# Altium schematic symbol library MCU - ARM.SchLib: 124 symbols (part 2 of 7)
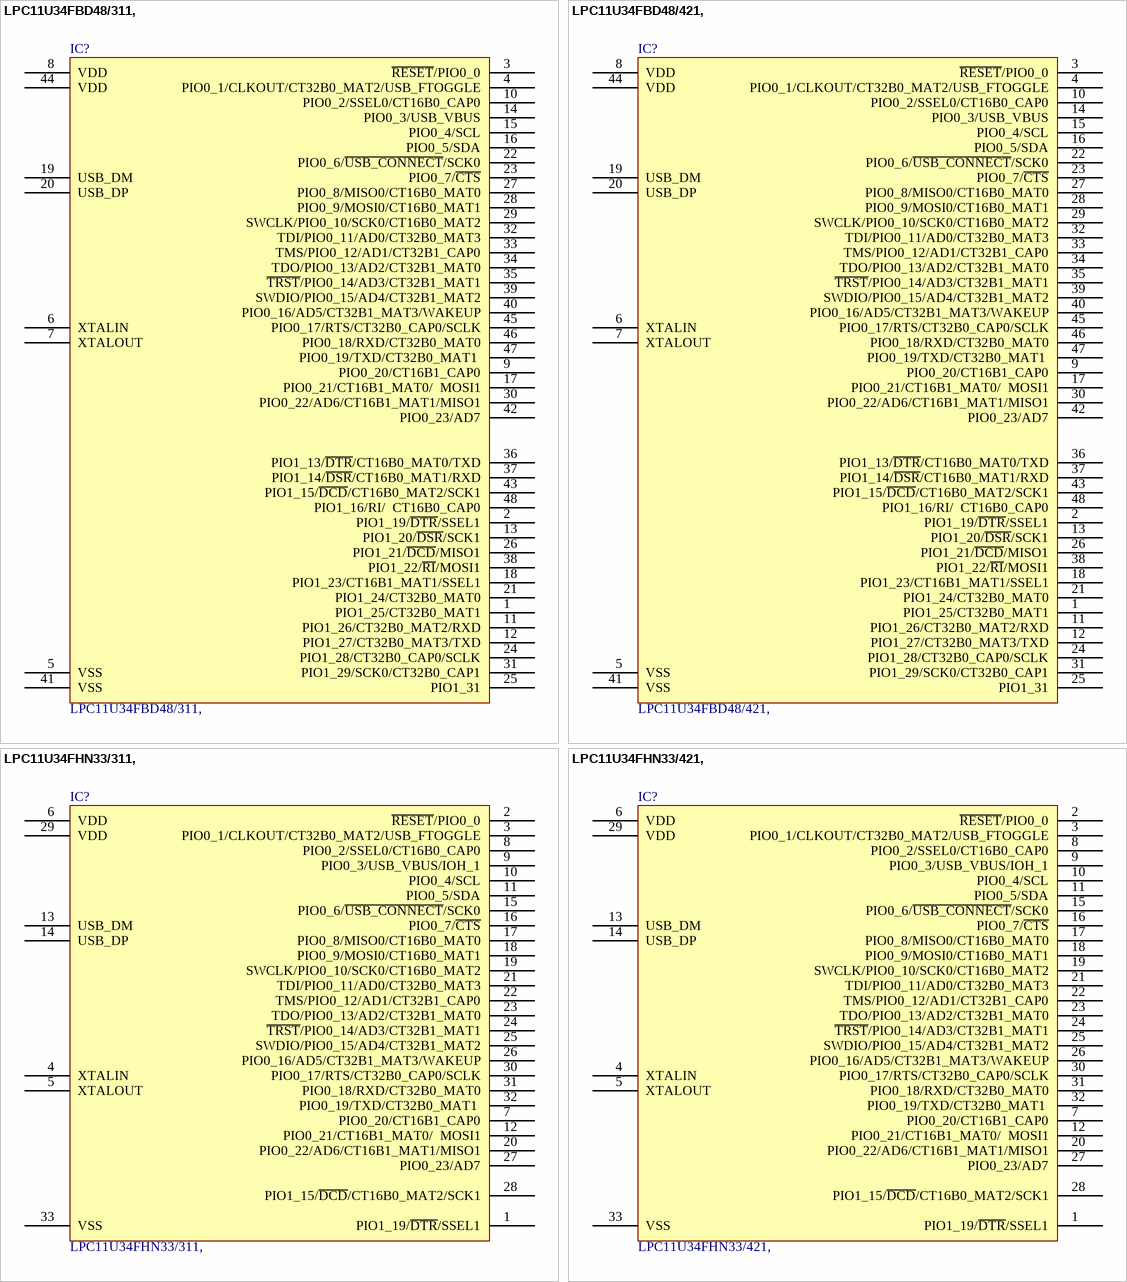
[diagram p46: symbols LPC11U34FBD48/311, to LPC11U34FHN33/421,]

## LPC11U34FHN33/421,
designator IC?
IC MCU ARM 48KB FLASH 32HVQFN; Manufacturer: NXP Semiconductors; Core Processor: ARM Cortex-M0; Core Size: 32-Bit; Speed: 50MHz; Number Of IO: 26; Program Memory Size: 48KB (48K x 8); EEPROM Size: 4K x 8; Ram Size: 10K x 8; Data Converters: A/D 8x10b; Oscillator Type: Internal; Part Number: LPC11U34FHN33/421,; PartId: 9222; Supplier 1: Digi-Key; Supplier Part Number 1: LPC11U34FHN33/421,-ND; ComponentLink1Description: Datasheet; ComponentLink1URL: http://www.nxp.com/documents/data_sheet/LPC11U3X.pdf; ComponentLink2Description: Digi-Key Listing; ComponentLink2URL: https://www.digikey.com/product-detail/en/LPC11U34FHN33%2F421,/LPC11U34FHN33%2F421,-ND/3430875; Price: 2.6455; Device Package: 32-VQFN Exposed Pad; Series: LPC11Uxx; Program Memory Type: FLASH
footprint NXP HVQFN-33 7x7mm
pins: 1 PIO1_19/~{DTR}/SSEL1, 2 ~{RESET}/PIO0_0, 3 PIO0_1/CLKOUT/CT32B0_MAT2/USB_FTOGGLE, 4 XTALIN, 5 XTALOUT, 6 VDD, 7 PIO0_20/CT16B1_CAP0, 8 PIO0_2/SSEL0/CT16B0_CAP0, 9 PIO0_3/USB_VBUS/IOH_1, 10 PIO0_4/SCL, 11 PIO0_5/SDA, 12 PIO0_21/CT16B1_MAT0/  MOSI1, 13 USB_DM, 14 USB_DP, 15 PIO0_6/~{USB_CONNECT}/SCK0, 16 PIO0_7/~{CTS}, 17 PIO0_8/MISO0/CT16B0_MAT0, 18 PIO0_9/MOSI0/CT16B0_MAT1, 19 SWCLK/PIO0_10/SCK0/CT16B0_MAT2, 20 PIO0_22/AD6/CT16B1_MAT1/MISO1, 21 TDI/PIO0_11/AD0/CT32B0_MAT3, 22 TMS/PIO0_12/AD1/CT32B1_CAP0, 23 TDO/PIO0_13/AD2/CT32B1_MAT0, 24 ~{TRST}/PIO0_14/AD3/CT32B1_MAT1, 25 SWDIO/PIO0_15/AD4/CT32B1_MAT2, 26 PIO0_16/AD5/CT32B1_MAT3/WAKEUP, 27 PIO0_23/AD7, 28 PIO1_15/~{DCD}/CT16B0_MAT2/SCK1, 29 VDD, 30 PIO0_17/RTS/CT32B0_CAP0/SCLK, 31 PIO0_18/RXD/CT32B0_MAT0, 32 PIO0_19/TXD/CT32B0_MAT1 , 33 VSS

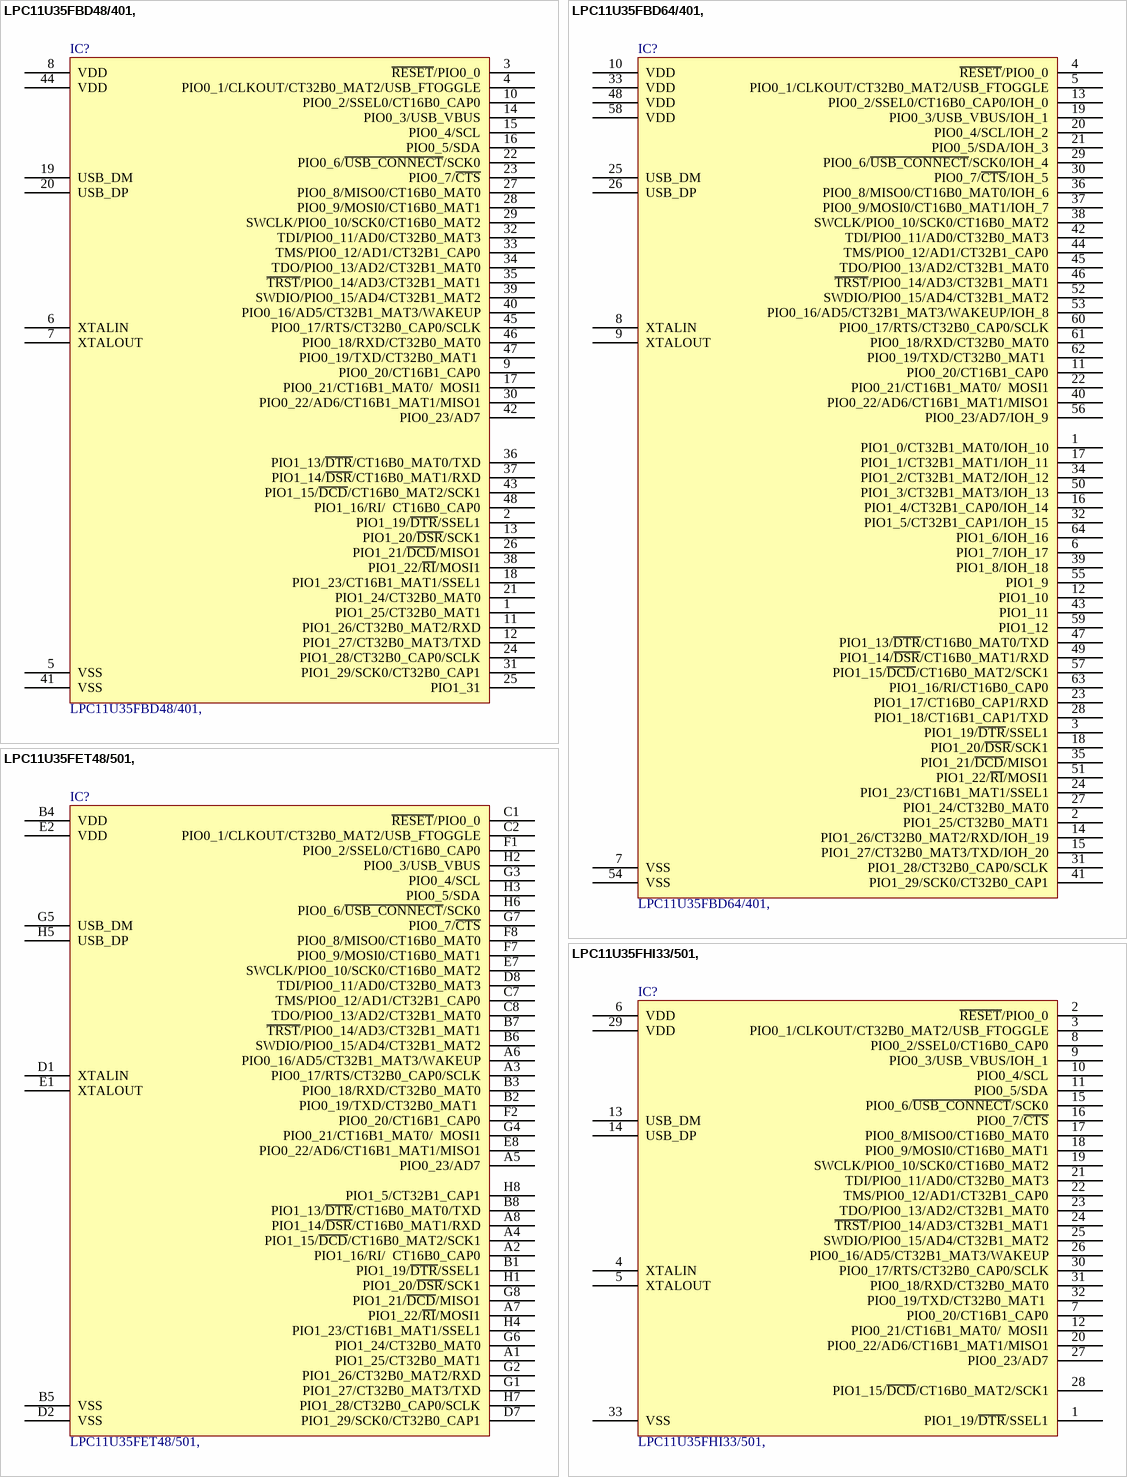
[diagram p7: symbols LPC11U35FBD48/401, to LPC11U35FHI33/501,]

## LPC11U35FBD48/401,
designator IC?
IC MCU ARM 64KB FLASH 48LQFP; Manufacturer: NXP Semiconductors; Core Processor: ARM Cortex-M0; Core Size: 32-Bit; Speed: 50MHz; Number Of IO: 40; Program Memory Size: 64KB (64K x 8); EEPROM Size: 4K x 8; Ram Size: 10K x 8; Data Converters: A/D 8x10b; Oscillator Type: Internal; Part Number: LPC11U35FBD48/401,; PartId: 9224; Supplier 1: Digi-Key; Supplier Part Number 1: 568-9584-ND; ComponentLink1Description: Datasheet; ComponentLink1URL: http://www.nxp.com/documents/data_sheet/LPC11U3X.pdf; ComponentLink2Description: Digi-Key Listing; ComponentLink2URL: https://www.digikey.com/product-detail/en/LPC11U35FBD48%2F401,/568-9584-ND/3462837; Price: 4.32; Device Package: 48-LQFP; Series: LPC11Uxx; Program Memory Type: FLASH
footprint NXP LQFP-48 7x7mm
pins: 1 PIO1_25/CT32B0_MAT1, 2 PIO1_19/~{DTR}/SSEL1, 3 ~{RESET}/PIO0_0, 4 PIO0_1/CLKOUT/CT32B0_MAT2/USB_FTOGGLE, 5 VSS, 6 XTALIN, 7 XTALOUT, 8 VDD, 9 PIO0_20/CT16B1_CAP0, 10 PIO0_2/SSEL0/CT16B0_CAP0, 11 PIO1_26/CT32B0_MAT2/RXD, 12 PIO1_27/CT32B0_MAT3/TXD, 13 PIO1_20/~{DSR}/SCK1, 14 PIO0_3/USB_VBUS, 15 PIO0_4/SCL, 16 PIO0_5/SDA, 17 PIO0_21/CT16B1_MAT0/  MOSI1, 18 PIO1_23/CT16B1_MAT1/SSEL1, 19 USB_DM, 20 USB_DP, 21 PIO1_24/CT32B0_MAT0, 22 PIO0_6/~{USB_CONNECT}/SCK0, 23 PIO0_7/~{CTS}, 24 PIO1_28/CT32B0_CAP0/SCLK, 25 PIO1_31, 26 PIO1_21/~{DCD}/MISO1, 27 PIO0_8/MISO0/CT16B0_MAT0, 28 PIO0_9/MOSI0/CT16B0_MAT1, 29 SWCLK/PIO0_10/SCK0/CT16B0_MAT2, 30 PIO0_22/AD6/CT16B1_MAT1/MISO1, 31 PIO1_29/SCK0/CT32B0_CAP1, 32 TDI/PIO0_11/AD0/CT32B0_MAT3, 33 TMS/PIO0_12/AD1/CT32B1_CAP0, 34 TDO/PIO0_13/AD2/CT32B1_MAT0, 35 ~{TRST}/PIO0_14/AD3/CT32B1_MAT1, 36 PIO1_13/~{DTR}/CT16B0_MAT0/TXD, 37 PIO1_14/~{DSR}/CT16B0_MAT1/RXD, 38 PIO1_22/~{RI}/MOSI1, 39 SWDIO/PIO0_15/AD4/CT32B1_MAT2, 40 PIO0_16/AD5/CT32B1_MAT3/WAKEUP, 41 VSS, 42 PIO0_23/AD7, 43 PIO1_15/~{DCD}/CT16B0_MAT2/SCK1, 44 VDD, 45 PIO0_17/RTS/CT32B0_CAP0/SCLK, 46 PIO0_18/RXD/CT32B0_MAT0, 47 PIO0_19/TXD/CT32B0_MAT1 , 48 PIO1_16/RI/  CT16B0_CAP0

## LPC11U35FBD64/401,
designator IC?
IC MCU ARM 64KB FLASH 64LQFP; Manufacturer: NXP Semiconductors; Core Processor: ARM Cortex-M0; Core Size: 32-Bit; Speed: 50MHz; Number Of IO: 54; Program Memory Size: 64KB (64K x 8); EEPROM Size: 4K x 8; Ram Size: 10K x 8; Data Converters: A/D 8x10b; Oscillator Type: Internal; Part Number: LPC11U35FBD64/401,; PartId: 9231; Supplier 1: Digi-Key; Supplier Part Number 1: 568-9585-ND; ComponentLink1Description: Datasheet; ComponentLink1URL: http://www.nxp.com/documents/data_sheet/LPC11U3X.pdf; ComponentLink2Description: Digi-Key Listing; ComponentLink2URL: https://www.digikey.com/product-detail/en/LPC11U35FBD64%2F401,/568-9585-ND/3462838; Price: 4.53; Device Package: 64-LQFP; Series: LPC11Uxx; Program Memory Type: FLASH
footprint NXP LQFP-64 10x10mm
pins: 1 PIO1_0/CT32B1_MAT0/IOH_10, 2 PIO1_25/CT32B0_MAT1, 3 PIO1_19/~{DTR}/SSEL1, 4 ~{RESET}/PIO0_0, 5 PIO0_1/CLKOUT/CT32B0_MAT2/USB_FTOGGLE, 6 PIO1_7/IOH_17, 7 VSS, 8 XTALIN, 9 XTALOUT, 10 VDD, 11 PIO0_20/CT16B1_CAP0, 12 PIO1_10, 13 PIO0_2/SSEL0/CT16B0_CAP0/IOH_0, 14 PIO1_26/CT32B0_MAT2/RXD/IOH_19, 15 PIO1_27/CT32B0_MAT3/TXD/IOH_20, 16 PIO1_4/CT32B1_CAP0/IOH_14, 17 PIO1_1/CT32B1_MAT1/IOH_11, 18 PIO1_20/~{DSR}/SCK1, 19 PIO0_3/USB_VBUS/IOH_1, 20 PIO0_4/SCL/IOH_2, 21 PIO0_5/SDA/IOH_3, 22 PIO0_21/CT16B1_MAT0/  MOSI1, 23 PIO1_17/CT16B0_CAP1/RXD, 24 PIO1_23/CT16B1_MAT1/SSEL1, 25 USB_DM, 26 USB_DP, 27 PIO1_24/CT32B0_MAT0, 28 PIO1_18/CT16B1_CAP1/TXD, 29 PIO0_6/~{USB_CONNECT}/SCK0/IOH_4, 30 PIO0_7/~{CTS}/IOH_5, 31 PIO1_28/CT32B0_CAP0/SCLK, 32 PIO1_5/CT32B1_CAP1/IOH_15, 33 VDD, 34 PIO1_2/CT32B1_MAT2/IOH_12, 35 PIO1_21/~{DCD}/MISO1, 36 PIO0_8/MISO0/CT16B0_MAT0/IOH_6, 37 PIO0_9/MOSI0/CT16B0_MAT1/IOH_7, 38 SWCLK/PIO0_10/SCK0/CT16B0_MAT2, 39 PIO1_8/IOH_18, 40 PIO0_22/AD6/CT16B1_MAT1/MISO1, 41 PIO1_29/SCK0/CT32B0_CAP1, 42 TDI/PIO0_11/AD0/CT32B0_MAT3, 43 PIO1_11, 44 TMS/PIO0_12/AD1/CT32B1_CAP0, 45 TDO/PIO0_13/AD2/CT32B1_MAT0, 46 ~{TRST}/PIO0_14/AD3/CT32B1_MAT1, 47 PIO1_13/~{DTR}/CT16B0_MAT0/TXD, 48 VDD, 49 PIO1_14/~{DSR}/CT16B0_MAT1/RXD, 50 PIO1_3/CT32B1_MAT3/IOH_13, 51 PIO1_22/~{RI}/MOSI1, 52 SWDIO/PIO0_15/AD4/CT32B1_MAT2, 53 PIO0_16/AD5/CT32B1_MAT3/WAKEUP/IOH_8, 54 VSS, 55 PIO1_9, 56 PIO0_23/AD7/IOH_9, 57 PIO1_15/~{DCD}/CT16B0_MAT2/SCK1, 58 VDD, 59 PIO1_12, 60 PIO0_17/RTS/CT32B0_CAP0/SCLK, 61 PIO0_18/RXD/CT32B0_MAT0, 62 PIO0_19/TXD/CT32B0_MAT1 , 63 PIO1_16/RI/CT16B0_CAP0, 64 PIO1_6/IOH_16

## LPC11U35FET48/501,
designator IC?
IC MCU ARM 64KB FLASH 48TFBGA; Manufacturer: NXP Semiconductors; Core Processor: ARM Cortex-M0; Core Size: 32-Bit; Speed: 50MHz; Connectivity: IC, Microwire, SmartCard, SPI, SSP, UART/USART, USB; Peripherals: Brown-out Detect/Reset, POR, WDT; Number Of IO: 40; Program Memory Size: 64KB (64K x 8); EEPROM Size: 4K x 8; Ram Size: 12K x 8; Voltage: 1.8 V ~ 3.6 V; Data Converters: A/D 8x10b; Oscillator Type: Internal; Part Number: LPC11U35FET48/501,; PartId: 9219; Supplier 1: Digi-Key; Supplier Part Number 1: LPC11U35FET48/501,-ND; ComponentLink1Description: Datasheet; ComponentLink1URL: http://www.nxp.com/documents/data_sheet/LPC11U3X.pdf; ComponentLink2Description: Digi-Key Listing; ComponentLink2URL: http://www.digikey.com/product-search/en?pv1291=6337&FV=fff40027%2Cfff800cd&k=LPC11U3&mnonly=0&newproducts=0&ColumnSort=0&page=1&quantity=0&ptm=0&fid=0&pageSize=500; Price: 3.1635; Device Package: 48-TFBGA; Program Memory Type: FLASH
footprint NXP TFBGA-48 4.5x4.5mm
pins: A1 PIO1_25/CT32B0_MAT1, A2 PIO1_16/RI/  CT16B0_CAP0, A3 PIO0_17/RTS/CT32B0_CAP0/SCLK, A4 PIO1_15/~{DCD}/CT16B0_MAT2/SCK1, A5 PIO0_23/AD7, A6 PIO0_16/AD5/CT32B1_MAT3/WAKEUP, A7 PIO1_22/~{RI}/MOSI1, A8 PIO1_14/~{DSR}/CT16B0_MAT1/RXD, B1 PIO1_19/~{DTR}/SSEL1, B2 PIO0_19/TXD/CT32B0_MAT1 , B3 PIO0_18/RXD/CT32B0_MAT0, B4 VDD, B5 VSS, B6 SWDIO/PIO0_15/AD4/CT32B1_MAT2, B7 ~{TRST}/PIO0_14/AD3/CT32B1_MAT1, B8 PIO1_13/~{DTR}/CT16B0_MAT0/TXD, C1 ~{RESET}/PIO0_0, C2 PIO0_1/CLKOUT/CT32B0_MAT2/USB_FTOGGLE, C7 TMS/PIO0_12/AD1/CT32B1_CAP0, C8 TDO/PIO0_13/AD2/CT32B1_MAT0, D1 XTALIN, D2 VSS, D7 PIO1_29/SCK0/CT32B0_CAP1, D8 TDI/PIO0_11/AD0/CT32B0_MAT3, E1 XTALOUT, E2 VDD, E7 SWCLK/PIO0_10/SCK0/CT16B0_MAT2, E8 PIO0_22/AD6/CT16B1_MAT1/MISO1, F1 PIO0_2/SSEL0/CT16B0_CAP0, F2 PIO0_20/CT16B1_CAP0, F7 PIO0_9/MOSI0/CT16B0_MAT1, F8 PIO0_8/MISO0/CT16B0_MAT0, G1 PIO1_27/CT32B0_MAT3/TXD, G2 PIO1_26/CT32B0_MAT2/RXD, G3 PIO0_4/SCL, G4 PIO0_21/CT16B1_MAT0/  MOSI1, G5 USB_DM, G6 PIO1_24/CT32B0_MAT0, G7 PIO0_7/~{CTS}, G8 PIO1_21/~{DCD}/MISO1, H1 PIO1_20/~{DSR}/SCK1, H2 PIO0_3/USB_VBUS, H3 PIO0_5/SDA, H4 PIO1_23/CT16B1_MAT1/SSEL1, H5 USB_DP, H6 PIO0_6/~{USB_CONNECT}/SCK0, H7 PIO1_28/CT32B0_CAP0/SCLK, H8 PIO1_5/CT32B1_CAP1

## LPC11U35FHI33/501,
designator IC?
IC MCU ARM 64KB FLASH 33HVQFN; Manufacturer: NXP Semiconductors; Core Processor: ARM Cortex-M0; Core Size: 32-Bit; Speed: 50MHz; Connectivity: IC, Microwire, SmartCard, SPI, SSP, UART/USART, USB; Peripherals: Brown-out Detect/Reset, POR, WDT; Number Of IO: 26; Program Memory Size: 64KB (64K x 8); EEPROM Size: 4K x 8; Ram Size: 12K x 8; Voltage: 1.8 V ~ 3.6 V; Data Converters: A/D 8x10b; Oscillator Type: Internal; Part Number: LPC11U35FHI33/501,; PartId: 9220; Supplier 1: Digi-Key; Supplier Part Number 1: 568-9586-ND; ComponentLink1Description: Datasheet; ComponentLink1URL: http://www.nxp.com/documents/data_sheet/LPC11U3X.pdf; ComponentLink2Description: Digi-Key Listing; ComponentLink2URL: http://www.digikey.com/product-search/en?pv1291=3750&FV=fff40027%2Cfff800cd&k=LPC11U3&mnonly=0&newproducts=0&ColumnSort=0&page=1&quantity=0&ptm=0&fid=0&pageSize=500; Price: 4.29; Device Package: 32-VFQFN Exposed Pad; Program Memory Type: FLASH
footprint NXP HVQFN-33 5x5mm
pins: 1 PIO1_19/~{DTR}/SSEL1, 2 ~{RESET}/PIO0_0, 3 PIO0_1/CLKOUT/CT32B0_MAT2/USB_FTOGGLE, 4 XTALIN, 5 XTALOUT, 6 VDD, 7 PIO0_20/CT16B1_CAP0, 8 PIO0_2/SSEL0/CT16B0_CAP0, 9 PIO0_3/USB_VBUS/IOH_1, 10 PIO0_4/SCL, 11 PIO0_5/SDA, 12 PIO0_21/CT16B1_MAT0/  MOSI1, 13 USB_DM, 14 USB_DP, 15 PIO0_6/~{USB_CONNECT}/SCK0, 16 PIO0_7/~{CTS}, 17 PIO0_8/MISO0/CT16B0_MAT0, 18 PIO0_9/MOSI0/CT16B0_MAT1, 19 SWCLK/PIO0_10/SCK0/CT16B0_MAT2, 20 PIO0_22/AD6/CT16B1_MAT1/MISO1, 21 TDI/PIO0_11/AD0/CT32B0_MAT3, 22 TMS/PIO0_12/AD1/CT32B1_CAP0, 23 TDO/PIO0_13/AD2/CT32B1_MAT0, 24 ~{TRST}/PIO0_14/AD3/CT32B1_MAT1, 25 SWDIO/PIO0_15/AD4/CT32B1_MAT2, 26 PIO0_16/AD5/CT32B1_MAT3/WAKEUP, 27 PIO0_23/AD7, 28 PIO1_15/~{DCD}/CT16B0_MAT2/SCK1, 29 VDD, 30 PIO0_17/RTS/CT32B0_CAP0/SCLK, 31 PIO0_18/RXD/CT32B0_MAT0, 32 PIO0_19/TXD/CT32B0_MAT1 , 33 VSS

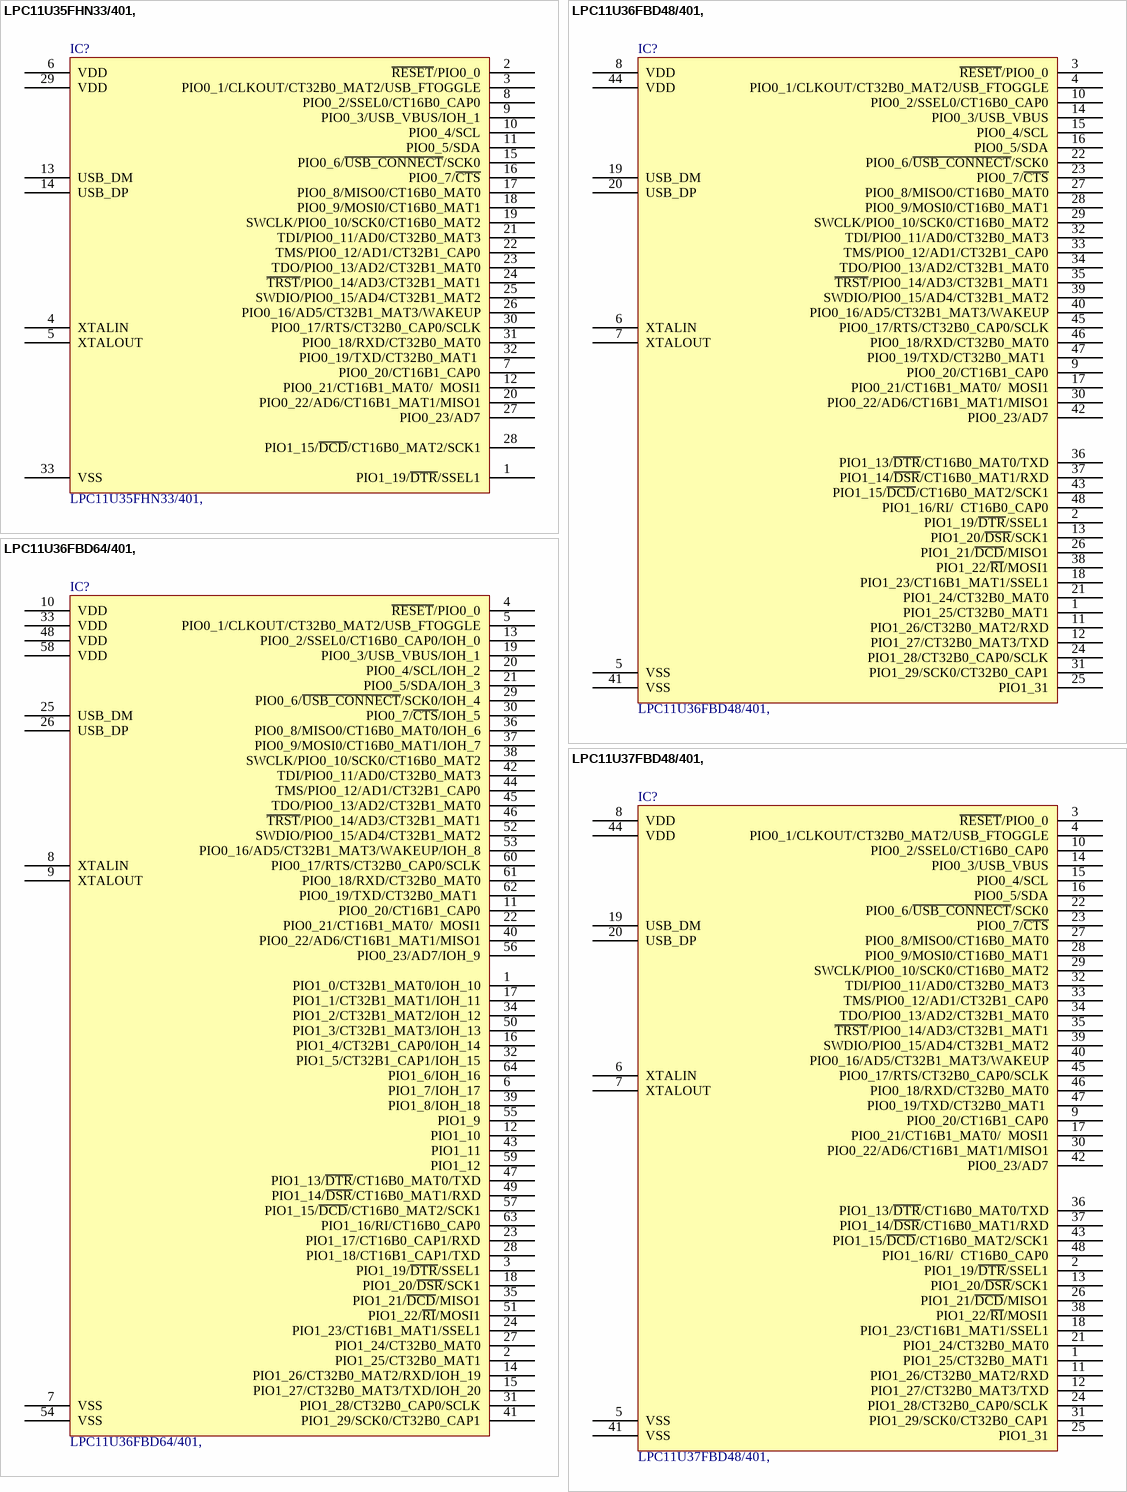
[diagram p8: symbols LPC11U35FHN33/401, to LPC11U37FBD48/401,]

## LPC11U35FHN33/401,
designator IC?
IC MCU ARM 64KB FLASH 32HVQFN; Manufacturer: NXP Semiconductors; Core Processor: ARM Cortex-M0; Core Size: 32-Bit; Speed: 50MHz; Number Of IO: 26; Program Memory Size: 64KB (64K x 8); EEPROM Size: 4K x 8; Ram Size: 10K x 8; Data Converters: A/D 8x10b; Oscillator Type: Internal; Part Number: LPC11U35FHN33/401,; PartId: 9223; Supplier 1: Digi-Key; Supplier Part Number 1: LPC11U35FHN33/401,-ND; ComponentLink1Description: Datasheet; ComponentLink1URL: http://www.nxp.com/documents/data_sheet/LPC11U3X.pdf; ComponentLink2Description: Digi-Key Listing; ComponentLink2URL: https://www.digikey.com/product-detail/en/LPC11U35FHN33%2F401,/LPC11U35FHN33%2F401,-ND/3430880; Price: 2.886; Device Package: 32-VQFN Exposed Pad; Series: LPC11Uxx; Program Memory Type: FLASH
footprint NXP HVQFN-33 7x7mm
pins: 1 PIO1_19/~{DTR}/SSEL1, 2 ~{RESET}/PIO0_0, 3 PIO0_1/CLKOUT/CT32B0_MAT2/USB_FTOGGLE, 4 XTALIN, 5 XTALOUT, 6 VDD, 7 PIO0_20/CT16B1_CAP0, 8 PIO0_2/SSEL0/CT16B0_CAP0, 9 PIO0_3/USB_VBUS/IOH_1, 10 PIO0_4/SCL, 11 PIO0_5/SDA, 12 PIO0_21/CT16B1_MAT0/  MOSI1, 13 USB_DM, 14 USB_DP, 15 PIO0_6/~{USB_CONNECT}/SCK0, 16 PIO0_7/~{CTS}, 17 PIO0_8/MISO0/CT16B0_MAT0, 18 PIO0_9/MOSI0/CT16B0_MAT1, 19 SWCLK/PIO0_10/SCK0/CT16B0_MAT2, 20 PIO0_22/AD6/CT16B1_MAT1/MISO1, 21 TDI/PIO0_11/AD0/CT32B0_MAT3, 22 TMS/PIO0_12/AD1/CT32B1_CAP0, 23 TDO/PIO0_13/AD2/CT32B1_MAT0, 24 ~{TRST}/PIO0_14/AD3/CT32B1_MAT1, 25 SWDIO/PIO0_15/AD4/CT32B1_MAT2, 26 PIO0_16/AD5/CT32B1_MAT3/WAKEUP, 27 PIO0_23/AD7, 28 PIO1_15/~{DCD}/CT16B0_MAT2/SCK1, 29 VDD, 30 PIO0_17/RTS/CT32B0_CAP0/SCLK, 31 PIO0_18/RXD/CT32B0_MAT0, 32 PIO0_19/TXD/CT32B0_MAT1 , 33 VSS

## LPC11U36FBD48/401,
designator IC?
IC MCU ARM 96KB FLASH 48LQFP; Manufacturer: NXP Semiconductors; Core Processor: ARM Cortex-M0; Core Size: 32-Bit; Speed: 50MHz; Number Of IO: 40; Program Memory Size: 96KB (96K x 8); EEPROM Size: 4K x 8; Ram Size: 10K x 8; Data Converters: A/D 8x10b; Oscillator Type: Internal; Part Number: LPC11U36FBD48/401,; PartId: 9226; Supplier 1: Digi-Key; Supplier Part Number 1: 568-9587-ND; ComponentLink1Description: Datasheet; ComponentLink1URL: http://www.nxp.com/documents/data_sheet/LPC11U3X.pdf; ComponentLink2Description: Digi-Key Listing; ComponentLink2URL: https://www.digikey.com/product-detail/en/LPC11U36FBD48%2F401,/568-9587-ND/3462840; Price: 4.8; Device Package: 48-LQFP; Series: LPC11Uxx; Program Memory Type: FLASH
footprint NXP LQFP-48 7x7mm
pins: 1 PIO1_25/CT32B0_MAT1, 2 PIO1_19/~{DTR}/SSEL1, 3 ~{RESET}/PIO0_0, 4 PIO0_1/CLKOUT/CT32B0_MAT2/USB_FTOGGLE, 5 VSS, 6 XTALIN, 7 XTALOUT, 8 VDD, 9 PIO0_20/CT16B1_CAP0, 10 PIO0_2/SSEL0/CT16B0_CAP0, 11 PIO1_26/CT32B0_MAT2/RXD, 12 PIO1_27/CT32B0_MAT3/TXD, 13 PIO1_20/~{DSR}/SCK1, 14 PIO0_3/USB_VBUS, 15 PIO0_4/SCL, 16 PIO0_5/SDA, 17 PIO0_21/CT16B1_MAT0/  MOSI1, 18 PIO1_23/CT16B1_MAT1/SSEL1, 19 USB_DM, 20 USB_DP, 21 PIO1_24/CT32B0_MAT0, 22 PIO0_6/~{USB_CONNECT}/SCK0, 23 PIO0_7/~{CTS}, 24 PIO1_28/CT32B0_CAP0/SCLK, 25 PIO1_31, 26 PIO1_21/~{DCD}/MISO1, 27 PIO0_8/MISO0/CT16B0_MAT0, 28 PIO0_9/MOSI0/CT16B0_MAT1, 29 SWCLK/PIO0_10/SCK0/CT16B0_MAT2, 30 PIO0_22/AD6/CT16B1_MAT1/MISO1, 31 PIO1_29/SCK0/CT32B0_CAP1, 32 TDI/PIO0_11/AD0/CT32B0_MAT3, 33 TMS/PIO0_12/AD1/CT32B1_CAP0, 34 TDO/PIO0_13/AD2/CT32B1_MAT0, 35 ~{TRST}/PIO0_14/AD3/CT32B1_MAT1, 36 PIO1_13/~{DTR}/CT16B0_MAT0/TXD, 37 PIO1_14/~{DSR}/CT16B0_MAT1/RXD, 38 PIO1_22/~{RI}/MOSI1, 39 SWDIO/PIO0_15/AD4/CT32B1_MAT2, 40 PIO0_16/AD5/CT32B1_MAT3/WAKEUP, 41 VSS, 42 PIO0_23/AD7, 43 PIO1_15/~{DCD}/CT16B0_MAT2/SCK1, 44 VDD, 45 PIO0_17/RTS/CT32B0_CAP0/SCLK, 46 PIO0_18/RXD/CT32B0_MAT0, 47 PIO0_19/TXD/CT32B0_MAT1 , 48 PIO1_16/RI/  CT16B0_CAP0

## LPC11U36FBD64/401,
designator IC?
IC MCU ARM 96KB FLASH 64LQFP; Manufacturer: NXP Semiconductors; Core Processor: ARM Cortex-M0; Core Size: 32-Bit; Speed: 50MHz; Number Of IO: 54; Program Memory Size: 96KB (96K x 8); EEPROM Size: 4K x 8; Ram Size: 10K x 8; Data Converters: A/D 8x10b; Oscillator Type: Internal; Part Number: LPC11U36FBD64/401,; PartId: 9233; Supplier 1: Digi-Key; Supplier Part Number 1: 568-9588-ND; ComponentLink1Description: Datasheet; ComponentLink1URL: http://www.nxp.com/documents/data_sheet/LPC11U3X.pdf; ComponentLink2Description: Digi-Key Listing; ComponentLink2URL: https://www.digikey.com/product-detail/en/LPC11U36FBD64%2F401,/568-9588-ND/3462841; Price: 5.01; Device Package: 64-LQFP; Series: LPC11Uxx; Program Memory Type: FLASH
footprint NXP LQFP-64 10x10mm
pins: 1 PIO1_0/CT32B1_MAT0/IOH_10, 2 PIO1_25/CT32B0_MAT1, 3 PIO1_19/~{DTR}/SSEL1, 4 ~{RESET}/PIO0_0, 5 PIO0_1/CLKOUT/CT32B0_MAT2/USB_FTOGGLE, 6 PIO1_7/IOH_17, 7 VSS, 8 XTALIN, 9 XTALOUT, 10 VDD, 11 PIO0_20/CT16B1_CAP0, 12 PIO1_10, 13 PIO0_2/SSEL0/CT16B0_CAP0/IOH_0, 14 PIO1_26/CT32B0_MAT2/RXD/IOH_19, 15 PIO1_27/CT32B0_MAT3/TXD/IOH_20, 16 PIO1_4/CT32B1_CAP0/IOH_14, 17 PIO1_1/CT32B1_MAT1/IOH_11, 18 PIO1_20/~{DSR}/SCK1, 19 PIO0_3/USB_VBUS/IOH_1, 20 PIO0_4/SCL/IOH_2, 21 PIO0_5/SDA/IOH_3, 22 PIO0_21/CT16B1_MAT0/  MOSI1, 23 PIO1_17/CT16B0_CAP1/RXD, 24 PIO1_23/CT16B1_MAT1/SSEL1, 25 USB_DM, 26 USB_DP, 27 PIO1_24/CT32B0_MAT0, 28 PIO1_18/CT16B1_CAP1/TXD, 29 PIO0_6/~{USB_CONNECT}/SCK0/IOH_4, 30 PIO0_7/~{CTS}/IOH_5, 31 PIO1_28/CT32B0_CAP0/SCLK, 32 PIO1_5/CT32B1_CAP1/IOH_15, 33 VDD, 34 PIO1_2/CT32B1_MAT2/IOH_12, 35 PIO1_21/~{DCD}/MISO1, 36 PIO0_8/MISO0/CT16B0_MAT0/IOH_6, 37 PIO0_9/MOSI0/CT16B0_MAT1/IOH_7, 38 SWCLK/PIO0_10/SCK0/CT16B0_MAT2, 39 PIO1_8/IOH_18, 40 PIO0_22/AD6/CT16B1_MAT1/MISO1, 41 PIO1_29/SCK0/CT32B0_CAP1, 42 TDI/PIO0_11/AD0/CT32B0_MAT3, 43 PIO1_11, 44 TMS/PIO0_12/AD1/CT32B1_CAP0, 45 TDO/PIO0_13/AD2/CT32B1_MAT0, 46 ~{TRST}/PIO0_14/AD3/CT32B1_MAT1, 47 PIO1_13/~{DTR}/CT16B0_MAT0/TXD, 48 VDD, 49 PIO1_14/~{DSR}/CT16B0_MAT1/RXD, 50 PIO1_3/CT32B1_MAT3/IOH_13, 51 PIO1_22/~{RI}/MOSI1, 52 SWDIO/PIO0_15/AD4/CT32B1_MAT2, 53 PIO0_16/AD5/CT32B1_MAT3/WAKEUP/IOH_8, 54 VSS, 55 PIO1_9, 56 PIO0_23/AD7/IOH_9, 57 PIO1_15/~{DCD}/CT16B0_MAT2/SCK1, 58 VDD, 59 PIO1_12, 60 PIO0_17/RTS/CT32B0_CAP0/SCLK, 61 PIO0_18/RXD/CT32B0_MAT0, 62 PIO0_19/TXD/CT32B0_MAT1 , 63 PIO1_16/RI/CT16B0_CAP0, 64 PIO1_6/IOH_16

## LPC11U37FBD48/401,
designator IC?
IC MCU ARM 128KB FLASH 48LQFP; Manufacturer: NXP Semiconductors; Core Processor: ARM Cortex-M0; Core Size: 32-Bit; Speed: 50MHz; Number Of IO: 40; Program Memory Size: 128KB (128K x 8); EEPROM Size: 4K x 8; Ram Size: 10K x 8; Data Converters: A/D 8x10b; Oscillator Type: Internal; Part Number: LPC11U37FBD48/401,; PartId: 9225; Supplier 1: Digi-Key; Supplier Part Number 1: 568-9590-ND; ComponentLink1Description: Datasheet; ComponentLink1URL: http://www.nxp.com/documents/data_sheet/LPC11U3X.pdf; ComponentLink2Description: Digi-Key Listing; ComponentLink2URL: https://www.digikey.com/product-detail/en/LPC11U37FBD48%2F401,/568-9590-ND/3462843; Price: 4.9; Device Package: 48-LQFP; Series: LPC11Uxx; Program Memory Type: FLASH
footprint NXP LQFP-48 7x7mm
pins: 1 PIO1_25/CT32B0_MAT1, 2 PIO1_19/~{DTR}/SSEL1, 3 ~{RESET}/PIO0_0, 4 PIO0_1/CLKOUT/CT32B0_MAT2/USB_FTOGGLE, 5 VSS, 6 XTALIN, 7 XTALOUT, 8 VDD, 9 PIO0_20/CT16B1_CAP0, 10 PIO0_2/SSEL0/CT16B0_CAP0, 11 PIO1_26/CT32B0_MAT2/RXD, 12 PIO1_27/CT32B0_MAT3/TXD, 13 PIO1_20/~{DSR}/SCK1, 14 PIO0_3/USB_VBUS, 15 PIO0_4/SCL, 16 PIO0_5/SDA, 17 PIO0_21/CT16B1_MAT0/  MOSI1, 18 PIO1_23/CT16B1_MAT1/SSEL1, 19 USB_DM, 20 USB_DP, 21 PIO1_24/CT32B0_MAT0, 22 PIO0_6/~{USB_CONNECT}/SCK0, 23 PIO0_7/~{CTS}, 24 PIO1_28/CT32B0_CAP0/SCLK, 25 PIO1_31, 26 PIO1_21/~{DCD}/MISO1, 27 PIO0_8/MISO0/CT16B0_MAT0, 28 PIO0_9/MOSI0/CT16B0_MAT1, 29 SWCLK/PIO0_10/SCK0/CT16B0_MAT2, 30 PIO0_22/AD6/CT16B1_MAT1/MISO1, 31 PIO1_29/SCK0/CT32B0_CAP1, 32 TDI/PIO0_11/AD0/CT32B0_MAT3, 33 TMS/PIO0_12/AD1/CT32B1_CAP0, 34 TDO/PIO0_13/AD2/CT32B1_MAT0, 35 ~{TRST}/PIO0_14/AD3/CT32B1_MAT1, 36 PIO1_13/~{DTR}/CT16B0_MAT0/TXD, 37 PIO1_14/~{DSR}/CT16B0_MAT1/RXD, 38 PIO1_22/~{RI}/MOSI1, 39 SWDIO/PIO0_15/AD4/CT32B1_MAT2, 40 PIO0_16/AD5/CT32B1_MAT3/WAKEUP, 41 VSS, 42 PIO0_23/AD7, 43 PIO1_15/~{DCD}/CT16B0_MAT2/SCK1, 44 VDD, 45 PIO0_17/RTS/CT32B0_CAP0/SCLK, 46 PIO0_18/RXD/CT32B0_MAT0, 47 PIO0_19/TXD/CT32B0_MAT1 , 48 PIO1_16/RI/  CT16B0_CAP0

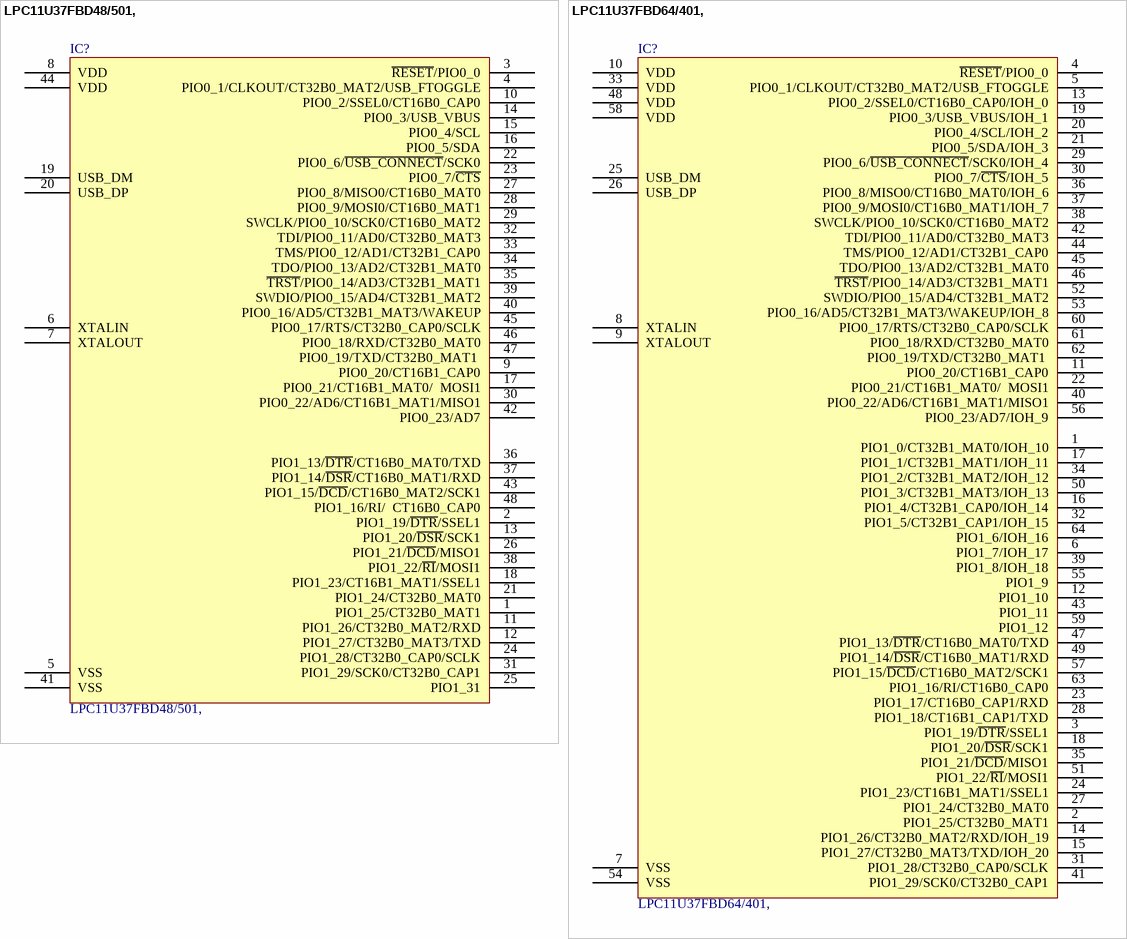
[diagram p9: symbols LPC11U37FBD48/501, to LPC11U37FBD64/401,]

## LPC11U37FBD48/501,
designator IC?
IC MCU ARM 128KB FLASH 48LQFP; Manufacturer: NXP Semiconductors; Core Processor: ARM Cortex-M0; Core Size: 32-Bit; Speed: 50MHz; Number Of IO: 40; Program Memory Size: 128KB (128K x 8); EEPROM Size: 4K x 8; Ram Size: 12K x 8; Data Converters: A/D 8x10b; Oscillator Type: Internal; Part Number: LPC11U37FBD48/501,; PartId: 9229; Supplier 1: Digi-Key; Supplier Part Number 1: LPC11U37FBD48/501,-ND; ComponentLink1Description: Datasheet; ComponentLink1URL: http://www.nxp.com/documents/data_sheet/LPC11U3X.pdf; ComponentLink2Description: Digi-Key Listing; ComponentLink2URL: https://www.digikey.com/product-detail/en/LPC11U37FBD48%2F501,/LPC11U37FBD48%2F501,-ND/3430884; Price: 0; Device Package: 48-LQFP; Series: LPC11Uxx; Program Memory Type: FLASH
footprint NXP LQFP-48 7x7mm
pins: 1 PIO1_25/CT32B0_MAT1, 2 PIO1_19/~{DTR}/SSEL1, 3 ~{RESET}/PIO0_0, 4 PIO0_1/CLKOUT/CT32B0_MAT2/USB_FTOGGLE, 5 VSS, 6 XTALIN, 7 XTALOUT, 8 VDD, 9 PIO0_20/CT16B1_CAP0, 10 PIO0_2/SSEL0/CT16B0_CAP0, 11 PIO1_26/CT32B0_MAT2/RXD, 12 PIO1_27/CT32B0_MAT3/TXD, 13 PIO1_20/~{DSR}/SCK1, 14 PIO0_3/USB_VBUS, 15 PIO0_4/SCL, 16 PIO0_5/SDA, 17 PIO0_21/CT16B1_MAT0/  MOSI1, 18 PIO1_23/CT16B1_MAT1/SSEL1, 19 USB_DM, 20 USB_DP, 21 PIO1_24/CT32B0_MAT0, 22 PIO0_6/~{USB_CONNECT}/SCK0, 23 PIO0_7/~{CTS}, 24 PIO1_28/CT32B0_CAP0/SCLK, 25 PIO1_31, 26 PIO1_21/~{DCD}/MISO1, 27 PIO0_8/MISO0/CT16B0_MAT0, 28 PIO0_9/MOSI0/CT16B0_MAT1, 29 SWCLK/PIO0_10/SCK0/CT16B0_MAT2, 30 PIO0_22/AD6/CT16B1_MAT1/MISO1, 31 PIO1_29/SCK0/CT32B0_CAP1, 32 TDI/PIO0_11/AD0/CT32B0_MAT3, 33 TMS/PIO0_12/AD1/CT32B1_CAP0, 34 TDO/PIO0_13/AD2/CT32B1_MAT0, 35 ~{TRST}/PIO0_14/AD3/CT32B1_MAT1, 36 PIO1_13/~{DTR}/CT16B0_MAT0/TXD, 37 PIO1_14/~{DSR}/CT16B0_MAT1/RXD, 38 PIO1_22/~{RI}/MOSI1, 39 SWDIO/PIO0_15/AD4/CT32B1_MAT2, 40 PIO0_16/AD5/CT32B1_MAT3/WAKEUP, 41 VSS, 42 PIO0_23/AD7, 43 PIO1_15/~{DCD}/CT16B0_MAT2/SCK1, 44 VDD, 45 PIO0_17/RTS/CT32B0_CAP0/SCLK, 46 PIO0_18/RXD/CT32B0_MAT0, 47 PIO0_19/TXD/CT32B0_MAT1 , 48 PIO1_16/RI/  CT16B0_CAP0

## LPC11U37FBD64/401,
designator IC?
IC MCU ARM 128KB FLASH 64LQFP; Manufacturer: NXP Semiconductors; Core Processor: ARM Cortex-M0; Core Size: 32-Bit; Speed: 50MHz; Number Of IO: 54; Program Memory Size: 128KB (128K x 8); EEPROM Size: 4K x 8; Ram Size: 10K x 8; Data Converters: A/D 8x10b; Oscillator Type: Internal; Part Number: LPC11U37FBD64/401,; PartId: 9234; Supplier 1: Digi-Key; Supplier Part Number 1: LPC11U37FBD64/401,-ND; ComponentLink1Description: Datasheet; ComponentLink1URL: http://www.nxp.com/documents/data_sheet/LPC11U3X.pdf; ComponentLink2Description: Digi-Key Listing; ComponentLink2URL: https://www.digikey.com/product-detail/en/LPC11U37FBD64%2F401,/LPC11U37FBD64%2F401,-ND/3430885; Price: 4.3485; Device Package: 64-LQFP; Series: LPC11Uxx; Program Memory Type: FLASH
footprint NXP LQFP-64 10x10mm
pins: 1 PIO1_0/CT32B1_MAT0/IOH_10, 2 PIO1_25/CT32B0_MAT1, 3 PIO1_19/~{DTR}/SSEL1, 4 ~{RESET}/PIO0_0, 5 PIO0_1/CLKOUT/CT32B0_MAT2/USB_FTOGGLE, 6 PIO1_7/IOH_17, 7 VSS, 8 XTALIN, 9 XTALOUT, 10 VDD, 11 PIO0_20/CT16B1_CAP0, 12 PIO1_10, 13 PIO0_2/SSEL0/CT16B0_CAP0/IOH_0, 14 PIO1_26/CT32B0_MAT2/RXD/IOH_19, 15 PIO1_27/CT32B0_MAT3/TXD/IOH_20, 16 PIO1_4/CT32B1_CAP0/IOH_14, 17 PIO1_1/CT32B1_MAT1/IOH_11, 18 PIO1_20/~{DSR}/SCK1, 19 PIO0_3/USB_VBUS/IOH_1, 20 PIO0_4/SCL/IOH_2, 21 PIO0_5/SDA/IOH_3, 22 PIO0_21/CT16B1_MAT0/  MOSI1, 23 PIO1_17/CT16B0_CAP1/RXD, 24 PIO1_23/CT16B1_MAT1/SSEL1, 25 USB_DM, 26 USB_DP, 27 PIO1_24/CT32B0_MAT0, 28 PIO1_18/CT16B1_CAP1/TXD, 29 PIO0_6/~{USB_CONNECT}/SCK0/IOH_4, 30 PIO0_7/~{CTS}/IOH_5, 31 PIO1_28/CT32B0_CAP0/SCLK, 32 PIO1_5/CT32B1_CAP1/IOH_15, 33 VDD, 34 PIO1_2/CT32B1_MAT2/IOH_12, 35 PIO1_21/~{DCD}/MISO1, 36 PIO0_8/MISO0/CT16B0_MAT0/IOH_6, 37 PIO0_9/MOSI0/CT16B0_MAT1/IOH_7, 38 SWCLK/PIO0_10/SCK0/CT16B0_MAT2, 39 PIO1_8/IOH_18, 40 PIO0_22/AD6/CT16B1_MAT1/MISO1, 41 PIO1_29/SCK0/CT32B0_CAP1, 42 TDI/PIO0_11/AD0/CT32B0_MAT3, 43 PIO1_11, 44 TMS/PIO0_12/AD1/CT32B1_CAP0, 45 TDO/PIO0_13/AD2/CT32B1_MAT0, 46 ~{TRST}/PIO0_14/AD3/CT32B1_MAT1, 47 PIO1_13/~{DTR}/CT16B0_MAT0/TXD, 48 VDD, 49 PIO1_14/~{DSR}/CT16B0_MAT1/RXD, 50 PIO1_3/CT32B1_MAT3/IOH_13, 51 PIO1_22/~{RI}/MOSI1, 52 SWDIO/PIO0_15/AD4/CT32B1_MAT2, 53 PIO0_16/AD5/CT32B1_MAT3/WAKEUP/IOH_8, 54 VSS, 55 PIO1_9, 56 PIO0_23/AD7/IOH_9, 57 PIO1_15/~{DCD}/CT16B0_MAT2/SCK1, 58 VDD, 59 PIO1_12, 60 PIO0_17/RTS/CT32B0_CAP0/SCLK, 61 PIO0_18/RXD/CT32B0_MAT0, 62 PIO0_19/TXD/CT32B0_MAT1 , 63 PIO1_16/RI/CT16B0_CAP0, 64 PIO1_6/IOH_16

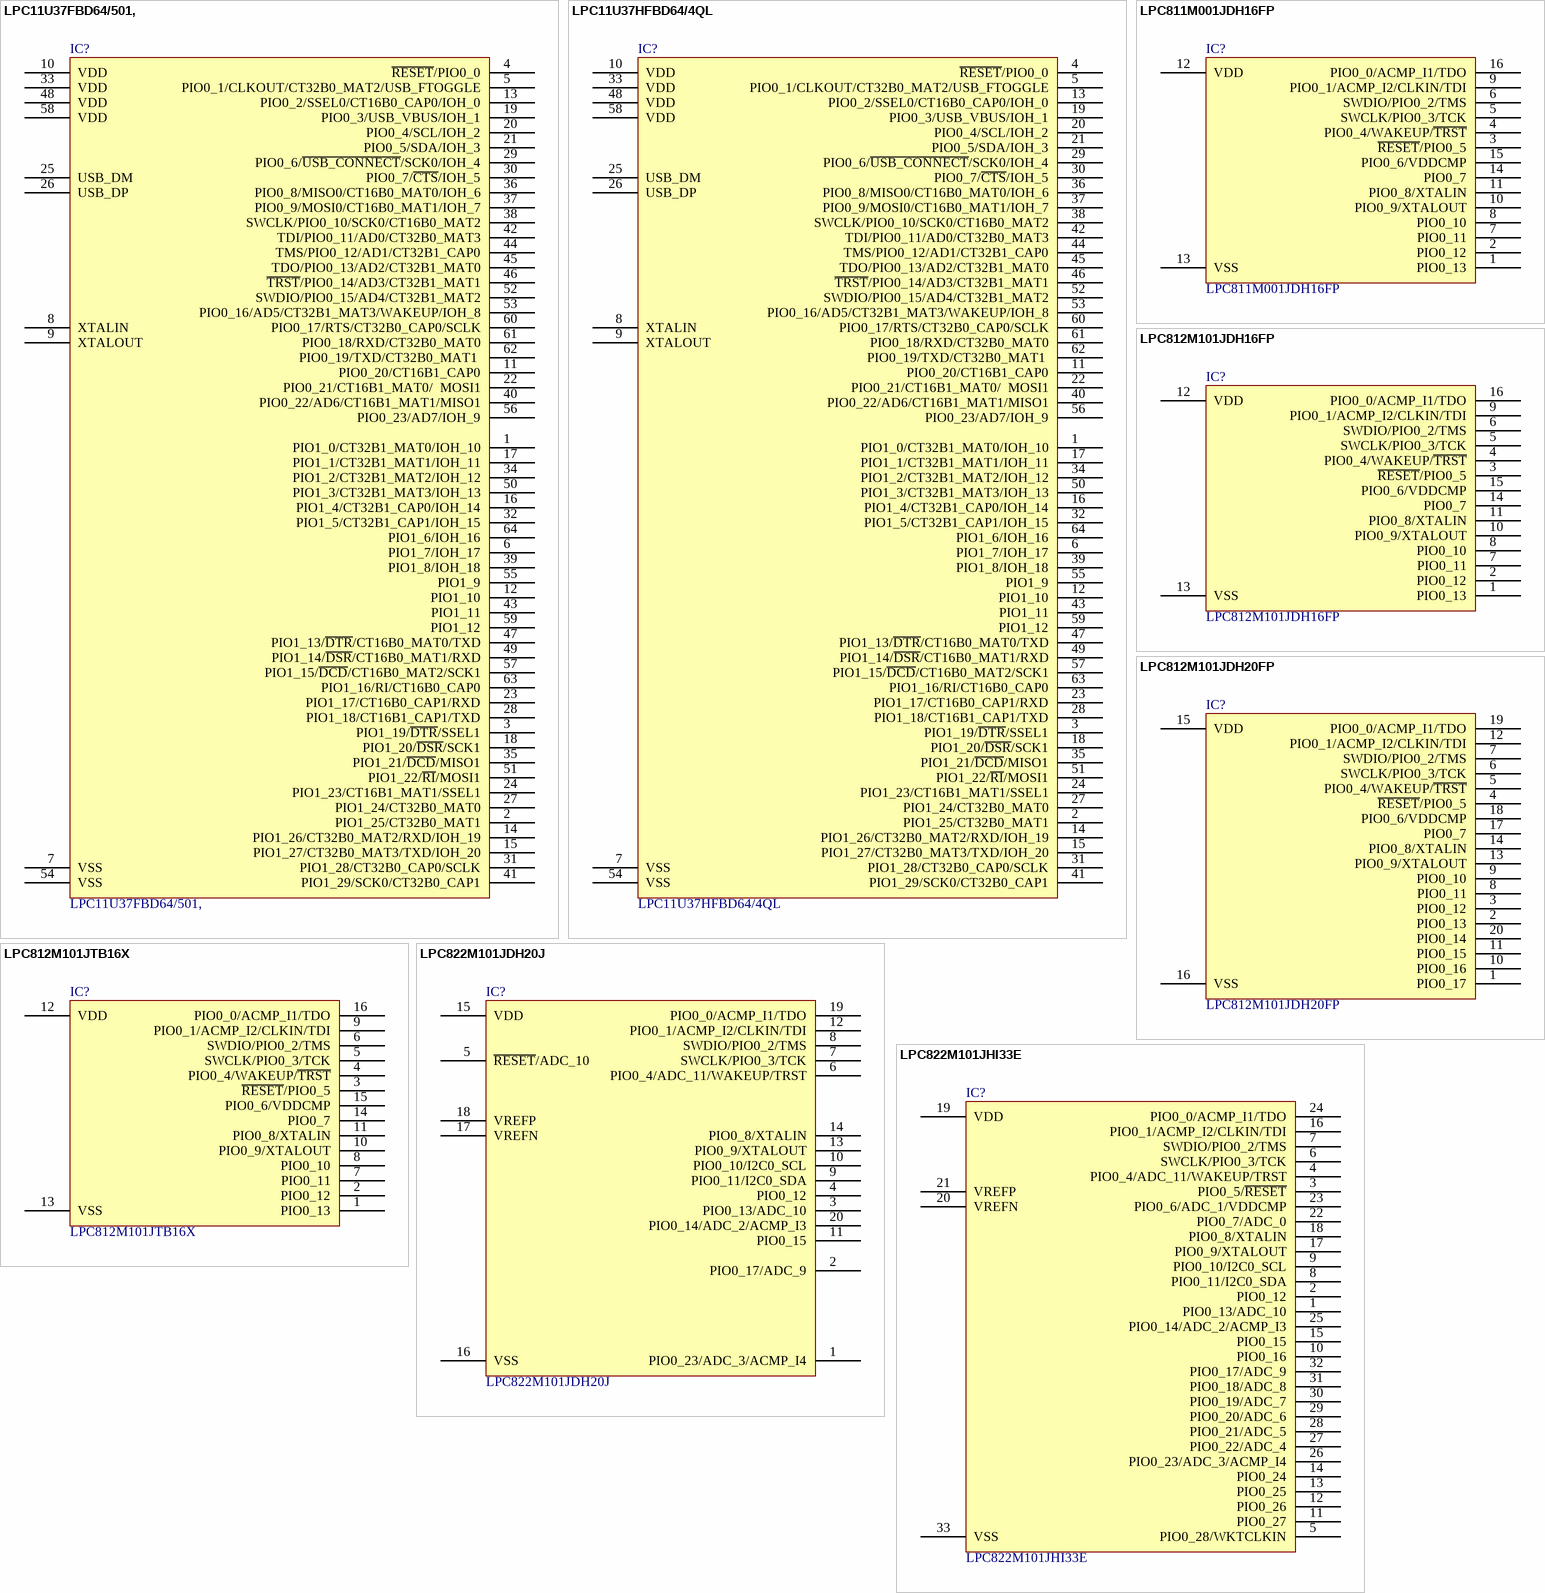
[diagram p10: symbols LPC11U37FBD64/501, to LPC822M101JHI33E]

## LPC11U37FBD64/501,
designator IC?
IC MCU ARM 128KB FLASH 64LQFP; Manufacturer: NXP Semiconductors; Core Processor: ARM Cortex-M0; Core Size: 32-Bit; Speed: 50MHz; Number Of IO: 54; Program Memory Size: 128KB (128K x 8); EEPROM Size: 4K x 8; Ram Size: 12K x 8; Data Converters: A/D 8x10b; Oscillator Type: Internal; Part Number: LPC11U37FBD64/501,; PartId: 9230; Supplier 1: Digi-Key; Supplier Part Number 1: 568-9589-ND; ComponentLink1Description: Datasheet; ComponentLink1URL: http://www.nxp.com/documents/data_sheet/LPC11U3X.pdf; ComponentLink2Description: Digi-Key Listing; ComponentLink2URL: https://www.digikey.com/product-detail/en/LPC11U37FBD64%2F501,/568-9589-ND/3462842; Price: 5.19; Device Package: 64-LQFP; Series: LPC11Uxx; Program Memory Type: FLASH
footprint NXP LQFP-64 10x10mm
pins: 1 PIO1_0/CT32B1_MAT0/IOH_10, 2 PIO1_25/CT32B0_MAT1, 3 PIO1_19/~{DTR}/SSEL1, 4 ~{RESET}/PIO0_0, 5 PIO0_1/CLKOUT/CT32B0_MAT2/USB_FTOGGLE, 6 PIO1_7/IOH_17, 7 VSS, 8 XTALIN, 9 XTALOUT, 10 VDD, 11 PIO0_20/CT16B1_CAP0, 12 PIO1_10, 13 PIO0_2/SSEL0/CT16B0_CAP0/IOH_0, 14 PIO1_26/CT32B0_MAT2/RXD/IOH_19, 15 PIO1_27/CT32B0_MAT3/TXD/IOH_20, 16 PIO1_4/CT32B1_CAP0/IOH_14, 17 PIO1_1/CT32B1_MAT1/IOH_11, 18 PIO1_20/~{DSR}/SCK1, 19 PIO0_3/USB_VBUS/IOH_1, 20 PIO0_4/SCL/IOH_2, 21 PIO0_5/SDA/IOH_3, 22 PIO0_21/CT16B1_MAT0/  MOSI1, 23 PIO1_17/CT16B0_CAP1/RXD, 24 PIO1_23/CT16B1_MAT1/SSEL1, 25 USB_DM, 26 USB_DP, 27 PIO1_24/CT32B0_MAT0, 28 PIO1_18/CT16B1_CAP1/TXD, 29 PIO0_6/~{USB_CONNECT}/SCK0/IOH_4, 30 PIO0_7/~{CTS}/IOH_5, 31 PIO1_28/CT32B0_CAP0/SCLK, 32 PIO1_5/CT32B1_CAP1/IOH_15, 33 VDD, 34 PIO1_2/CT32B1_MAT2/IOH_12, 35 PIO1_21/~{DCD}/MISO1, 36 PIO0_8/MISO0/CT16B0_MAT0/IOH_6, 37 PIO0_9/MOSI0/CT16B0_MAT1/IOH_7, 38 SWCLK/PIO0_10/SCK0/CT16B0_MAT2, 39 PIO1_8/IOH_18, 40 PIO0_22/AD6/CT16B1_MAT1/MISO1, 41 PIO1_29/SCK0/CT32B0_CAP1, 42 TDI/PIO0_11/AD0/CT32B0_MAT3, 43 PIO1_11, 44 TMS/PIO0_12/AD1/CT32B1_CAP0, 45 TDO/PIO0_13/AD2/CT32B1_MAT0, 46 ~{TRST}/PIO0_14/AD3/CT32B1_MAT1, 47 PIO1_13/~{DTR}/CT16B0_MAT0/TXD, 48 VDD, 49 PIO1_14/~{DSR}/CT16B0_MAT1/RXD, 50 PIO1_3/CT32B1_MAT3/IOH_13, 51 PIO1_22/~{RI}/MOSI1, 52 SWDIO/PIO0_15/AD4/CT32B1_MAT2, 53 PIO0_16/AD5/CT32B1_MAT3/WAKEUP/IOH_8, 54 VSS, 55 PIO1_9, 56 PIO0_23/AD7/IOH_9, 57 PIO1_15/~{DCD}/CT16B0_MAT2/SCK1, 58 VDD, 59 PIO1_12, 60 PIO0_17/RTS/CT32B0_CAP0/SCLK, 61 PIO0_18/RXD/CT32B0_MAT0, 62 PIO0_19/TXD/CT32B0_MAT1 , 63 PIO1_16/RI/CT16B0_CAP0, 64 PIO1_6/IOH_16

## LPC11U37HFBD64/4QL
designator IC?
IC MCU 32BIT 128KB FLASH 64LQFP; Manufacturer: NXP Semiconductors; Core Processor: ARM Cortex-M0; Core Size: 32-Bit; Speed: 50MHz; Number Of IO: 54; Program Memory Size: 128KB (128K x 8); EEPROM Size: 4K x 8; Ram Size: 10K x 8; Data Converters: A/D 8x10b; Oscillator Type: Internal; Part Number: LPC11U37HFBD64/4QL; PartId: 9232; Supplier 1: Digi-Key; Supplier Part Number 1: 568-10990-ND; ComponentLink1Description: Datasheet; ComponentLink1URL: http://www.nxp.com/documents/data_sheet/LPC11U3X.pdf; ComponentLink2Description: Digi-Key Listing; ComponentLink2URL: https://www.digikey.com/product-detail/en/LPC11U37HFBD64%2F4QL/568-10990-ND/4494711; Price: 5.33; Device Package: 64-LQFP; Series: LPC11Uxx; Program Memory Type: FLASH
footprint NXP LQFP-64 10x10mm
pins: 1 PIO1_0/CT32B1_MAT0/IOH_10, 2 PIO1_25/CT32B0_MAT1, 3 PIO1_19/~{DTR}/SSEL1, 4 ~{RESET}/PIO0_0, 5 PIO0_1/CLKOUT/CT32B0_MAT2/USB_FTOGGLE, 6 PIO1_7/IOH_17, 7 VSS, 8 XTALIN, 9 XTALOUT, 10 VDD, 11 PIO0_20/CT16B1_CAP0, 12 PIO1_10, 13 PIO0_2/SSEL0/CT16B0_CAP0/IOH_0, 14 PIO1_26/CT32B0_MAT2/RXD/IOH_19, 15 PIO1_27/CT32B0_MAT3/TXD/IOH_20, 16 PIO1_4/CT32B1_CAP0/IOH_14, 17 PIO1_1/CT32B1_MAT1/IOH_11, 18 PIO1_20/~{DSR}/SCK1, 19 PIO0_3/USB_VBUS/IOH_1, 20 PIO0_4/SCL/IOH_2, 21 PIO0_5/SDA/IOH_3, 22 PIO0_21/CT16B1_MAT0/  MOSI1, 23 PIO1_17/CT16B0_CAP1/RXD, 24 PIO1_23/CT16B1_MAT1/SSEL1, 25 USB_DM, 26 USB_DP, 27 PIO1_24/CT32B0_MAT0, 28 PIO1_18/CT16B1_CAP1/TXD, 29 PIO0_6/~{USB_CONNECT}/SCK0/IOH_4, 30 PIO0_7/~{CTS}/IOH_5, 31 PIO1_28/CT32B0_CAP0/SCLK, 32 PIO1_5/CT32B1_CAP1/IOH_15, 33 VDD, 34 PIO1_2/CT32B1_MAT2/IOH_12, 35 PIO1_21/~{DCD}/MISO1, 36 PIO0_8/MISO0/CT16B0_MAT0/IOH_6, 37 PIO0_9/MOSI0/CT16B0_MAT1/IOH_7, 38 SWCLK/PIO0_10/SCK0/CT16B0_MAT2, 39 PIO1_8/IOH_18, 40 PIO0_22/AD6/CT16B1_MAT1/MISO1, 41 PIO1_29/SCK0/CT32B0_CAP1, 42 TDI/PIO0_11/AD0/CT32B0_MAT3, 43 PIO1_11, 44 TMS/PIO0_12/AD1/CT32B1_CAP0, 45 TDO/PIO0_13/AD2/CT32B1_MAT0, 46 ~{TRST}/PIO0_14/AD3/CT32B1_MAT1, 47 PIO1_13/~{DTR}/CT16B0_MAT0/TXD, 48 VDD, 49 PIO1_14/~{DSR}/CT16B0_MAT1/RXD, 50 PIO1_3/CT32B1_MAT3/IOH_13, 51 PIO1_22/~{RI}/MOSI1, 52 SWDIO/PIO0_15/AD4/CT32B1_MAT2, 53 PIO0_16/AD5/CT32B1_MAT3/WAKEUP/IOH_8, 54 VSS, 55 PIO1_9, 56 PIO0_23/AD7/IOH_9, 57 PIO1_15/~{DCD}/CT16B0_MAT2/SCK1, 58 VDD, 59 PIO1_12, 60 PIO0_17/RTS/CT32B0_CAP0/SCLK, 61 PIO0_18/RXD/CT32B0_MAT0, 62 PIO0_19/TXD/CT32B0_MAT1 , 63 PIO1_16/RI/CT16B0_CAP0, 64 PIO1_6/IOH_16

## LPC811M001JDH16FP
designator IC?
IC MCU ARM 8KB FLASH 16TSSOP; Manufacturer: NXP Semiconductors; Core Processor: ARM Cortex-M0+; Core Size: 32-Bit; Speed: 30MHz; Number Of IO: 14; Program Memory Size: 8KB (8K x 8); Ram Size: 2K x 8; Oscillator Type: Internal; Part Number: LPC811M001JDH16FP; PartId: 9249; Supplier 1: Digi-Key; Supplier Part Number 1: 568-10434-5-ND; ComponentLink1Description: Datasheet; ComponentLink1URL: http://www.nxp.com/documents/data_sheet/LPC81XM.pdf; ComponentLink2Description: Digi-Key Listing; ComponentLink2URL: https://www.digikey.com/product-detail/en/LPC811M001JDH16FP/568-10434-5-ND/4368882; Price: 1.52; Device Package: 16-TSSOP (0.173", 4.40mm Width); Series: LPC81xM; Program Memory Type: FLASH; EEPROM Size: -; Data Converters: -
footprint NXP TSSOP-16
pins: 1 PIO0_13, 2 PIO0_12, 3 ~{RESET}/PIO0_5, 4 PIO0_4/WAKEUP/~{TRST}, 5 SWCLK/PIO0_3/TCK, 6 SWDIO/PIO0_2/TMS, 7 PIO0_11, 8 PIO0_10, 9 PIO0_1/ACMP_I2/CLKIN/TDI, 10 PIO0_9/XTALOUT, 11 PIO0_8/XTALIN, 12 VDD, 13 VSS, 14 PIO0_7, 15 PIO0_6/VDDCMP, 16 PIO0_0/ACMP_I1/TDO

## LPC812M101JDH16FP
designator IC?
IC MCU ARM 16KB FLASH 16TSSOP; Manufacturer: NXP Semiconductors; Core Processor: ARM Cortex-M0+; Core Size: 32-Bit; Speed: 30MHz; Number Of IO: 14; Program Memory Size: 16KB (16K x 8); Ram Size: 4K x 8; Oscillator Type: Internal; Part Number: LPC812M101JDH16FP; PartId: 9248; Supplier 1: Digi-Key; Supplier Part Number 1: 568-10436-5-ND; ComponentLink1Description: Datasheet; ComponentLink1URL: http://www.nxp.com/documents/data_sheet/LPC81XM.pdf; ComponentLink2Description: Digi-Key Listing; ComponentLink2URL: https://www.digikey.com/product-detail/en/LPC812M101JDH16FP/568-10436-5-ND/4368884; Price: 1.62; Device Package: 16-TSSOP (0.173", 4.40mm Width); Series: LPC81xM; Program Memory Type: FLASH; EEPROM Size: -; Data Converters: -
footprint NXP TSSOP-16
pins: 1 PIO0_13, 2 PIO0_12, 3 ~{RESET}/PIO0_5, 4 PIO0_4/WAKEUP/~{TRST}, 5 SWCLK/PIO0_3/TCK, 6 SWDIO/PIO0_2/TMS, 7 PIO0_11, 8 PIO0_10, 9 PIO0_1/ACMP_I2/CLKIN/TDI, 10 PIO0_9/XTALOUT, 11 PIO0_8/XTALIN, 12 VDD, 13 VSS, 14 PIO0_7, 15 PIO0_6/VDDCMP, 16 PIO0_0/ACMP_I1/TDO

## LPC812M101JDH20FP
designator IC?
IC MCU ARM 16KB FLASH 20TSSOP; Manufacturer: NXP Semiconductors; Core Processor: ARM Cortex-M0+; Core Size: 32-Bit; Speed: 30MHz; Connectivity: IC, SPI, UART/USART; Peripherals: Brown-out Detect/Reset, POR, PWM, WDT; Number Of IO: 18; Program Memory Size: 16KB (16K x 8); Ram Size: 4K x 8; Voltage: 1.8 V ~ 3.6 V; Oscillator Type: Internal; Part Number: LPC812M101JDH20FP; PartId: 9251; Supplier 1: Digi-Key; Supplier Part Number 1: 568-10437-5-ND; ComponentLink1Description: Datasheet; ComponentLink1URL: http://www.nxp.com/documents/data_sheet/LPC81XM.pdf; ComponentLink2Description: Digi-Key Listing; ComponentLink2URL: http://www.digikey.com/product-search/en?pv1291=14&FV=ffec93c6%2Cfff40027%2Cfff800cd&mnonly=0&newproducts=0&ColumnSort=0&page=1&stock=1&quantity=0&ptm=0&fid=0&pageSize=500; Price: 1.71; Device Package: 20-TSSOP (0.173", 4.40mm Width); Program Memory Type: FLASH; EEPROM Size: -; Data Converters: -
footprint NXP TSSOP-20
pins: 1 PIO0_17, 2 PIO0_13, 3 PIO0_12, 4 ~{RESET}/PIO0_5, 5 PIO0_4/WAKEUP/~{TRST}, 6 SWCLK/PIO0_3/TCK, 7 SWDIO/PIO0_2/TMS, 8 PIO0_11, 9 PIO0_10, 10 PIO0_16, 11 PIO0_15, 12 PIO0_1/ACMP_I2/CLKIN/TDI, 13 PIO0_9/XTALOUT, 14 PIO0_8/XTALIN, 15 VDD, 16 VSS, 17 PIO0_7, 18 PIO0_6/VDDCMP, 19 PIO0_0/ACMP_I1/TDO, 20 PIO0_14

## LPC812M101JTB16X
designator IC?
MCU 32BIT 16KB FLASH 16XSON; Manufacturer: NXP Semiconductors; Core Processor: ARM Cortex-M0+; Core Size: 32-Bit; Speed: 30MHz; Connectivity: IC, SPI, UART/USART; Peripherals: Brown-out Detect/Reset, POR, PWM, WDT; Number Of IO: 14; Program Memory Size: 16KB (16K x 8); Ram Size: 4K x 8; Voltage: 1.8 V ~ 3.6 V; Oscillator Type: Internal; Part Number: LPC812M101JTB16X; PartId: 9250; Supplier 1: Digi-Key; Supplier Part Number 1: 568-11574-2-ND; ComponentLink1Description: Datasheet; ComponentLink1URL: http://www.nxp.com/documents/data_sheet/LPC81XM.pdf; ComponentLink2Description: Digi-Key Listing; ComponentLink2URL: http://www.digikey.com/product-detail/en/LPC812M101JTB16X/568-11574-2-ND/4843239; Price: 0.7425; Device Package: 16-XFDFN; Program Memory Type: FLASH; EEPROM Size: -; Data Converters: -
footprint NXP XSON16 SOT1341-1
pins: 1 PIO0_13, 2 PIO0_12, 3 ~{RESET}/PIO0_5, 4 PIO0_4/WAKEUP/~{TRST}, 5 SWCLK/PIO0_3/TCK, 6 SWDIO/PIO0_2/TMS, 7 PIO0_11, 8 PIO0_10, 9 PIO0_1/ACMP_I2/CLKIN/TDI, 10 PIO0_9/XTALOUT, 11 PIO0_8/XTALIN, 12 VDD, 13 VSS, 14 PIO0_7, 15 PIO0_6/VDDCMP, 16 PIO0_0/ACMP_I1/TDO

## LPC822M101JDH20J
designator IC?
IC MCU 32BIT 32KB FLASH 20TSSOP; Manufacturer: NXP Semiconductors; Core Processor: ARM Cortex-M0+; Core Size: 32-Bit; Speed: 30MHz; Number Of IO: 16; Program Memory Size: 16KB (16K x 8); Ram Size: 4K x 8; Data Converters: A/D 5x12b; Oscillator Type: Internal; Part Number: LPC822M101JDH20J; PartId: 9205; Supplier 1: Digi-Key; Supplier Part Number 1: 568-11620-2-ND; ComponentLink1Description: Datasheet; ComponentLink1URL: http://www.nxp.com/documents/data_sheet/LPC82X.pdf; ComponentLink2Description: Digi-Key Listing; ComponentLink2URL: https://www.digikey.com/product-detail/en/LPC822M101JDH20J/568-11620-2-ND/5031623; Price: 0.7479; Device Package: 20-TSSOP (0.173", 4.40mm Width); Series: LPC82x; Program Memory Type: FLASH; EEPROM Size: -
footprint NXP TSSOP-20
pins: 1 PIO0_23/ADC_3/ACMP_I4, 2 PIO0_17/ADC_9, 3 PIO0_13/ADC_10, 4 PIO0_12, 5 ~{RESET}/ADC_10, 6 PIO0_4/ADC_11/WAKEUP/TRST, 7 SWCLK/PIO0_3/TCK, 8 SWDIO/PIO0_2/TMS, 9 PIO0_11/I2C0_SDA, 10 PIO0_10/I2C0_SCL, 11 PIO0_15, 12 PIO0_1/ACMP_I2/CLKIN/TDI, 13 PIO0_9/XTALOUT, 14 PIO0_8/XTALIN, 15 VDD, 16 VSS, 17 VREFN, 18 VREFP, 19 PIO0_0/ACMP_I1/TDO, 20 PIO0_14/ADC_2/ACMP_I3

## LPC822M101JHI33E
designator IC?
IC MCU 32BIT 16KB FLASH 33HVQFN; Manufacturer: NXP Semiconductors; Core Processor: ARM Cortex-M0+; Core Size: 32-Bit; Speed: 30MHz; Number Of IO: 29; Program Memory Size: 16KB (16K x 8); Ram Size: 4K x 8; Data Converters: A/D 12x12b; Oscillator Type: Internal; Part Number: LPC822M101JHI33E; PartId: 9207; Supplier 1: Digi-Key; Supplier Part Number 1: 568-11571-ND; ComponentLink1Description: Datasheet; ComponentLink1URL: http://media.digikey.com/pdf/Data%20Sheets/NXP%20PDFs/LPC82x%20Draft.pdf; ComponentLink2Description: Digi-Key Listing; ComponentLink2URL: https://www.digikey.com/product-detail/en/LPC822M101JHI33E/568-11571-ND/4975715; Price: 1.73; Device Package: 32-VFQFN Exposed Pad; Series: LPC82x; Program Memory Type: FLASH; EEPROM Size: -
footprint NXP HVQFN-33 5x5mm
pins: 1 PIO0_13/ADC_10, 2 PIO0_12, 3 PIO0_5/~{RESET}, 4 PIO0_4/ADC_11/WAKEUP/TRST, 5 PIO0_28/WKTCLKIN, 6 SWCLK/PIO0_3/TCK, 7 SWDIO/PIO0_2/TMS, 8 PIO0_11/I2C0_SDA, 9 PIO0_10/I2C0_SCL, 10 PIO0_16, 11 PIO0_27, 12 PIO0_26, 13 PIO0_25, 14 PIO0_24, 15 PIO0_15, 16 PIO0_1/ACMP_I2/CLKIN/TDI, 17 PIO0_9/XTALOUT, 18 PIO0_8/XTALIN, 19 VDD, 20 VREFN, 21 VREFP, 22 PIO0_7/ADC_0, 23 PIO0_6/ADC_1/VDDCMP, 24 PIO0_0/ACMP_I1/TDO, 25 PIO0_14/ADC_2/ACMP_I3, 26 PIO0_23/ADC_3/ACMP_I4, 27 PIO0_22/ADC_4, 28 PIO0_21/ADC_5, 29 PIO0_20/ADC_6, 30 PIO0_19/ADC_7, 31 PIO0_18/ADC_8, 32 PIO0_17/ADC_9, 33 VSS

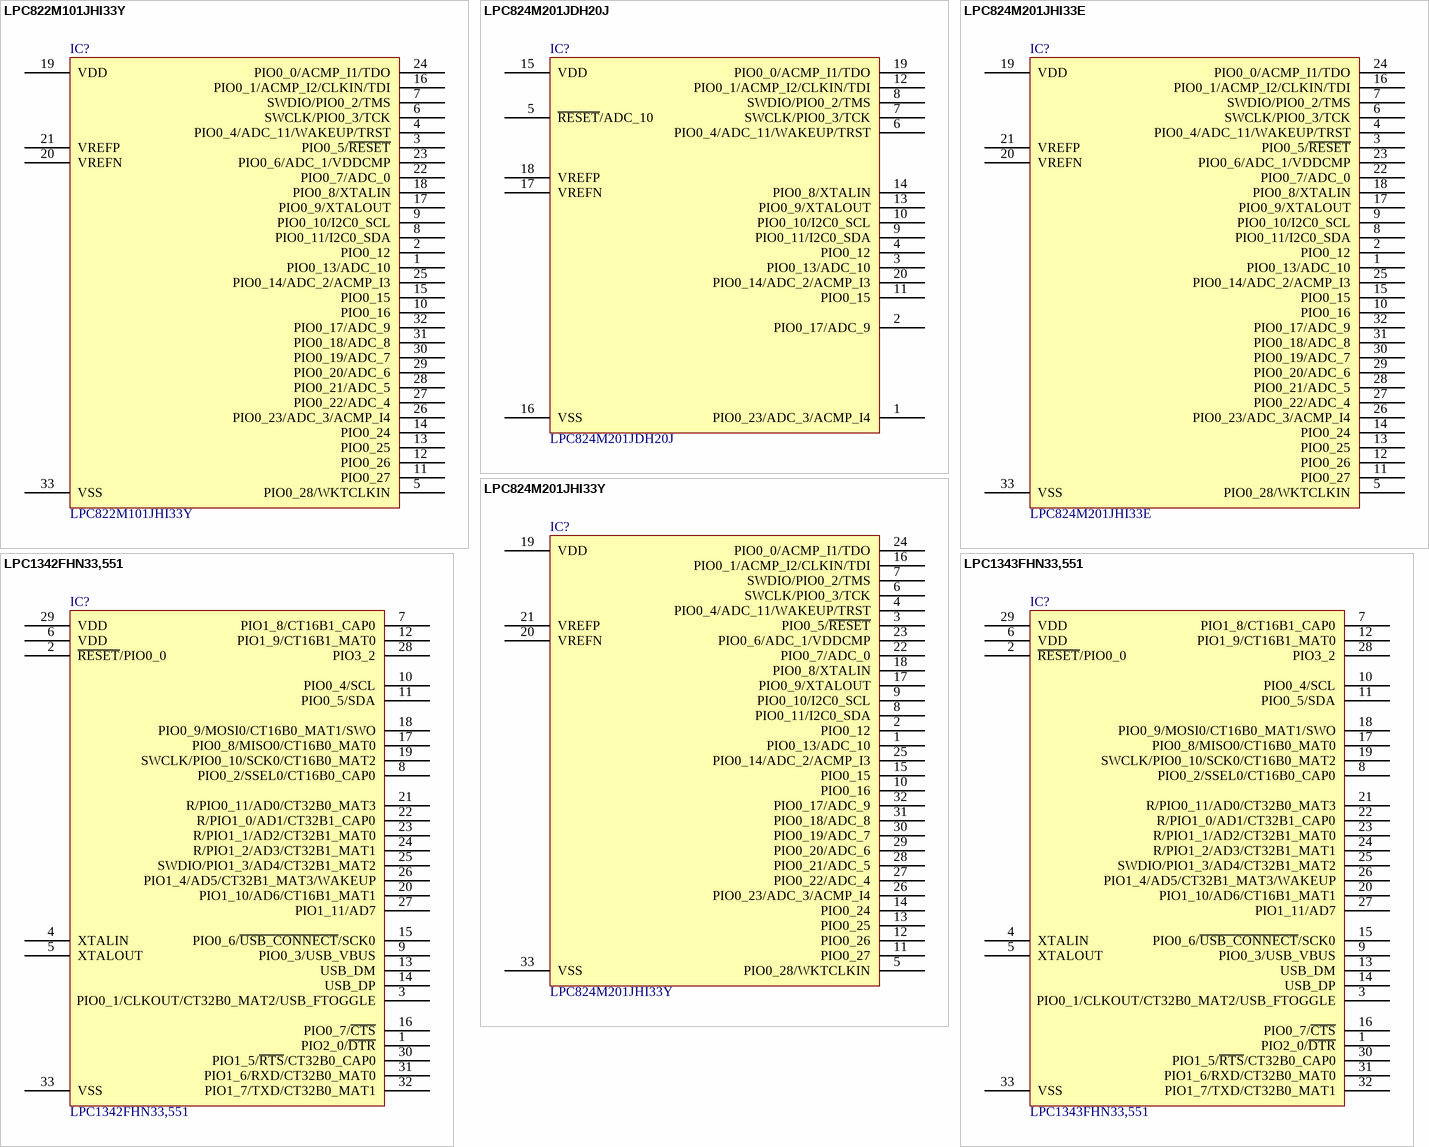
[diagram p11: symbols LPC822M101JHI33Y to LPC1343FHN33,551]

## LPC822M101JHI33Y
designator IC?
IC MCU 32BIT 16KB FLASH 33HVQFN; Manufacturer: NXP Semiconductors; Core Processor: ARM Cortex-M0+; Core Size: 32-Bit; Speed: 30MHz; Number Of IO: 29; Program Memory Size: 16KB (16K x 8); Ram Size: 4K x 8; Data Converters: A/D 12x12b; Oscillator Type: Internal; Part Number: LPC822M101JHI33Y; PartId: 9210; Supplier 1: Digi-Key; Supplier Part Number 1: LPC822M101JHI33Y-ND; ComponentLink1Description: Datasheet; ComponentLink2Description: Digi-Key Listing; ComponentLink2URL: https://www.digikey.com/product-detail/en/LPC822M101JHI33Y/LPC822M101JHI33Y-ND/5170007; Price: 0.7605; Device Package: 32-VFQFN Exposed Pad; Series: LPC82x; Program Memory Type: FLASH; EEPROM Size: -
footprint NXP HVQFN-33 5x5mm
pins: 1 PIO0_13/ADC_10, 2 PIO0_12, 3 PIO0_5/~{RESET}, 4 PIO0_4/ADC_11/WAKEUP/TRST, 5 PIO0_28/WKTCLKIN, 6 SWCLK/PIO0_3/TCK, 7 SWDIO/PIO0_2/TMS, 8 PIO0_11/I2C0_SDA, 9 PIO0_10/I2C0_SCL, 10 PIO0_16, 11 PIO0_27, 12 PIO0_26, 13 PIO0_25, 14 PIO0_24, 15 PIO0_15, 16 PIO0_1/ACMP_I2/CLKIN/TDI, 17 PIO0_9/XTALOUT, 18 PIO0_8/XTALIN, 19 VDD, 20 VREFN, 21 VREFP, 22 PIO0_7/ADC_0, 23 PIO0_6/ADC_1/VDDCMP, 24 PIO0_0/ACMP_I1/TDO, 25 PIO0_14/ADC_2/ACMP_I3, 26 PIO0_23/ADC_3/ACMP_I4, 27 PIO0_22/ADC_4, 28 PIO0_21/ADC_5, 29 PIO0_20/ADC_6, 30 PIO0_19/ADC_7, 31 PIO0_18/ADC_8, 32 PIO0_17/ADC_9, 33 VSS

## LPC824M201JDH20J
designator IC?
IC MCU 32BIT 32KB FLASH 20TSSOP; Manufacturer: NXP Semiconductors; Core Processor: ARM Cortex-M0+; Core Size: 32-Bit; Speed: 30MHz; Number Of IO: 16; Program Memory Size: 32KB (32K x 8); Ram Size: 8K x 8; Data Converters: A/D 5x12b; Oscillator Type: Internal; Part Number: LPC824M201JDH20J; PartId: 9206; Supplier 1: Digi-Key; Supplier Part Number 1: 568-11619-2-ND; ComponentLink1Description: Datasheet; ComponentLink1URL: http://www.nxp.com/documents/data_sheet/LPC82X.pdf; ComponentLink2Description: Digi-Key Listing; ComponentLink2URL: https://www.digikey.com/product-detail/en/LPC824M201JDH20J/568-11619-2-ND/5031624; Price: 0.8032; Device Package: 20-TSSOP (0.173", 4.40mm Width); Series: LPC82x; Program Memory Type: FLASH; EEPROM Size: -
footprint NXP TSSOP-20
pins: 1 PIO0_23/ADC_3/ACMP_I4, 2 PIO0_17/ADC_9, 3 PIO0_13/ADC_10, 4 PIO0_12, 5 ~{RESET}/ADC_10, 6 PIO0_4/ADC_11/WAKEUP/TRST, 7 SWCLK/PIO0_3/TCK, 8 SWDIO/PIO0_2/TMS, 9 PIO0_11/I2C0_SDA, 10 PIO0_10/I2C0_SCL, 11 PIO0_15, 12 PIO0_1/ACMP_I2/CLKIN/TDI, 13 PIO0_9/XTALOUT, 14 PIO0_8/XTALIN, 15 VDD, 16 VSS, 17 VREFN, 18 VREFP, 19 PIO0_0/ACMP_I1/TDO, 20 PIO0_14/ADC_2/ACMP_I3

## LPC824M201JHI33E
designator IC?
IC MCU 32BIT 32KB FLASH 33HVQFN; Manufacturer: NXP Semiconductors; Core Processor: ARM Cortex-M0+; Core Size: 32-Bit; Speed: 30MHz; Number Of IO: 29; Program Memory Size: 32KB (32K x 8); Ram Size: 8K x 8; Data Converters: A/D 12x12b; Oscillator Type: Internal; Part Number: LPC824M201JHI33E; PartId: 9208; Supplier 1: Digi-Key; Supplier Part Number 1: 568-11572-ND; ComponentLink1Description: Datasheet; ComponentLink1URL: http://www.nxp.com/documents/data_sheet/LPC82X.pdf; ComponentLink2Description: Digi-Key Listing; ComponentLink2URL: https://www.digikey.com/product-detail/en/LPC824M201JHI33E/568-11572-ND/4975716; Price: 1.83; Device Package: 32-VFQFN Exposed Pad; Series: LPC82x; Program Memory Type: FLASH; EEPROM Size: -
footprint NXP HVQFN-33 5x5mm
pins: 1 PIO0_13/ADC_10, 2 PIO0_12, 3 PIO0_5/~{RESET}, 4 PIO0_4/ADC_11/WAKEUP/TRST, 5 PIO0_28/WKTCLKIN, 6 SWCLK/PIO0_3/TCK, 7 SWDIO/PIO0_2/TMS, 8 PIO0_11/I2C0_SDA, 9 PIO0_10/I2C0_SCL, 10 PIO0_16, 11 PIO0_27, 12 PIO0_26, 13 PIO0_25, 14 PIO0_24, 15 PIO0_15, 16 PIO0_1/ACMP_I2/CLKIN/TDI, 17 PIO0_9/XTALOUT, 18 PIO0_8/XTALIN, 19 VDD, 20 VREFN, 21 VREFP, 22 PIO0_7/ADC_0, 23 PIO0_6/ADC_1/VDDCMP, 24 PIO0_0/ACMP_I1/TDO, 25 PIO0_14/ADC_2/ACMP_I3, 26 PIO0_23/ADC_3/ACMP_I4, 27 PIO0_22/ADC_4, 28 PIO0_21/ADC_5, 29 PIO0_20/ADC_6, 30 PIO0_19/ADC_7, 31 PIO0_18/ADC_8, 32 PIO0_17/ADC_9, 33 VSS

## LPC824M201JHI33Y
designator IC?
IC MCU 32BIT 32KB FLASH 32HVQFN; Manufacturer: NXP Semiconductors; Core Processor: ARM Cortex-M0+; Core Size: 32-Bit; Speed: 30MHz; Number Of IO: 29; Program Memory Size: 32KB (32K x 8); Ram Size: 8K x 8; Data Converters: A/D 12x12b; Oscillator Type: Internal; Part Number: LPC824M201JHI33Y; PartId: 9209; Supplier 1: Digi-Key; Supplier Part Number 1: LPC824M201JHI33Y-ND; ComponentLink1Description: Datasheet; ComponentLink2Description: Digi-Key Listing; ComponentLink2URL: https://www.digikey.com/product-detail/en/LPC824M201JHI33Y/LPC824M201JHI33Y-ND/5170008; Price: 0.806; Device Package: 32-VFQFN Exposed Pad; Series: LPC82x; Program Memory Type: FLASH; EEPROM Size: -
footprint NXP HVQFN-33 5x5mm
pins: 1 PIO0_13/ADC_10, 2 PIO0_12, 3 PIO0_5/~{RESET}, 4 PIO0_4/ADC_11/WAKEUP/TRST, 5 PIO0_28/WKTCLKIN, 6 SWCLK/PIO0_3/TCK, 7 SWDIO/PIO0_2/TMS, 8 PIO0_11/I2C0_SDA, 9 PIO0_10/I2C0_SCL, 10 PIO0_16, 11 PIO0_27, 12 PIO0_26, 13 PIO0_25, 14 PIO0_24, 15 PIO0_15, 16 PIO0_1/ACMP_I2/CLKIN/TDI, 17 PIO0_9/XTALOUT, 18 PIO0_8/XTALIN, 19 VDD, 20 VREFN, 21 VREFP, 22 PIO0_7/ADC_0, 23 PIO0_6/ADC_1/VDDCMP, 24 PIO0_0/ACMP_I1/TDO, 25 PIO0_14/ADC_2/ACMP_I3, 26 PIO0_23/ADC_3/ACMP_I4, 27 PIO0_22/ADC_4, 28 PIO0_21/ADC_5, 29 PIO0_20/ADC_6, 30 PIO0_19/ADC_7, 31 PIO0_18/ADC_8, 32 PIO0_17/ADC_9, 33 VSS

## LPC1342FHN33,551
designator IC?
IC MCU 32BIT 16KB FLASH 32HVQFN; Manufacturer: NXP Semiconductors; Core Processor: ARM Cortex-M3; Core Size: 32-Bit; Speed: 72MHz; Connectivity: IC, Microwire, SPI, SSI, SSP, UART/USART, USB; Peripherals: Brown-out Detect/Reset, POR, WDT; Number Of IO: 28; Program Memory Size: 16KB (16K x 8); Ram Size: 4K x 8; Voltage: 2 V ~ 3.6 V; Data Converters: A/D 8x10b; Oscillator Type: Internal; Part Number: LPC1342FHN33,551; PartId: 9699; Supplier 1: Digi-Key; Supplier Part Number 1: 568-4946-ND; ComponentLink1Description: Datasheet; ComponentLink1URL: http://www.nxp.com/documents/data_sheet/LPC1311_13_42_43.pdf; ComponentLink2Description: Digi-Key Listing; ComponentLink2URL: http://www.digikey.com/product-detail/en/nxp-semiconductors/LPC1342FHN33,551/568-4946-ND/2180454; Price: 3.68; Device Package: 32-VQFN Exposed Pad; Series: LPC13xx; Program Memory Type: FLASH; EEPROM Size: -
footprint NXP HVQFN-33 7x7mm
pins: 1 PIO2_0/~{DTR}, 2 ~{RESET}/PIO0_0, 3 PIO0_1/CLKOUT/CT32B0_MAT2/USB_FTOGGLE, 4 XTALIN, 5 XTALOUT, 6 VDD, 7 PIO1_8/CT16B1_CAP0, 8 PIO0_2/SSEL0/CT16B0_CAP0, 9 PIO0_3/USB_VBUS, 10 PIO0_4/SCL, 11 PIO0_5/SDA, 12 PIO1_9/CT16B1_MAT0, 13 USB_DM, 14 USB_DP, 15 PIO0_6/~{USB_CONNECT}/SCK0, 16 PIO0_7/~{CTS}, 17 PIO0_8/MISO0/CT16B0_MAT0, 18 PIO0_9/MOSI0/CT16B0_MAT1/SWO, 19 SWCLK/PIO0_10/SCK0/CT16B0_MAT2, 20 PIO1_10/AD6/CT16B1_MAT1, 21 R/PIO0_11/AD0/CT32B0_MAT3, 22 R/PIO1_0/AD1/CT32B1_CAP0, 23 R/PIO1_1/AD2/CT32B1_MAT0, 24 R/PIO1_2/AD3/CT32B1_MAT1, 25 SWDIO/PIO1_3/AD4/CT32B1_MAT2, 26 PIO1_4/AD5/CT32B1_MAT3/WAKEUP, 27 PIO1_11/AD7, 28 PIO3_2, 29 VDD, 30 PIO1_5/~{RTS}/CT32B0_CAP0, 31 PIO1_6/RXD/CT32B0_MAT0, 32 PIO1_7/TXD/CT32B0_MAT1, 33 VSS

## LPC1343FHN33,551
designator IC?
IC MCU 32BIT 32KB FLASH 32HVQFN; Manufacturer: NXP Semiconductors; Core Processor: ARM Cortex-M3; Core Size: 32-Bit; Speed: 72MHz; Connectivity: IC, Microwire, SPI, SSI, SSP, UART/USART, USB; Peripherals: Brown-out Detect/Reset, POR, WDT; Number Of IO: 28; Program Memory Size: 32KB (32K x 8); Ram Size: 8K x 8; Voltage: 2 V ~ 3.6 V; Data Converters: A/D 8x10b; Oscillator Type: Internal; Part Number: LPC1343FHN33,551; PartId: 9700; Supplier 1: Digi-Key; Supplier Part Number 1: 568-4944-ND; ComponentLink1Description: Datasheet; ComponentLink1URL: http://www.nxp.com/documents/data_sheet/LPC1311_13_42_43.pdf; ComponentLink2Description: Digi-Key Listing; ComponentLink2URL: http://www.digikey.com/product-detail/en/nxp-semiconductors/LPC1343FHN33,551/568-4944-ND/2180455; Price: 4.08; Device Package: 32-VQFN Exposed Pad; Series: LPC13xx; Program Memory Type: FLASH; EEPROM Size: -
footprint NXP HVQFN-33 7x7mm
pins: 1 PIO2_0/~{DTR}, 2 ~{RESET}/PIO0_0, 3 PIO0_1/CLKOUT/CT32B0_MAT2/USB_FTOGGLE, 4 XTALIN, 5 XTALOUT, 6 VDD, 7 PIO1_8/CT16B1_CAP0, 8 PIO0_2/SSEL0/CT16B0_CAP0, 9 PIO0_3/USB_VBUS, 10 PIO0_4/SCL, 11 PIO0_5/SDA, 12 PIO1_9/CT16B1_MAT0, 13 USB_DM, 14 USB_DP, 15 PIO0_6/~{USB_CONNECT}/SCK0, 16 PIO0_7/~{CTS}, 17 PIO0_8/MISO0/CT16B0_MAT0, 18 PIO0_9/MOSI0/CT16B0_MAT1/SWO, 19 SWCLK/PIO0_10/SCK0/CT16B0_MAT2, 20 PIO1_10/AD6/CT16B1_MAT1, 21 R/PIO0_11/AD0/CT32B0_MAT3, 22 R/PIO1_0/AD1/CT32B1_CAP0, 23 R/PIO1_1/AD2/CT32B1_MAT0, 24 R/PIO1_2/AD3/CT32B1_MAT1, 25 SWDIO/PIO1_3/AD4/CT32B1_MAT2, 26 PIO1_4/AD5/CT32B1_MAT3/WAKEUP, 27 PIO1_11/AD7, 28 PIO3_2, 29 VDD, 30 PIO1_5/~{RTS}/CT32B0_CAP0, 31 PIO1_6/RXD/CT32B0_MAT0, 32 PIO1_7/TXD/CT32B0_MAT1, 33 VSS

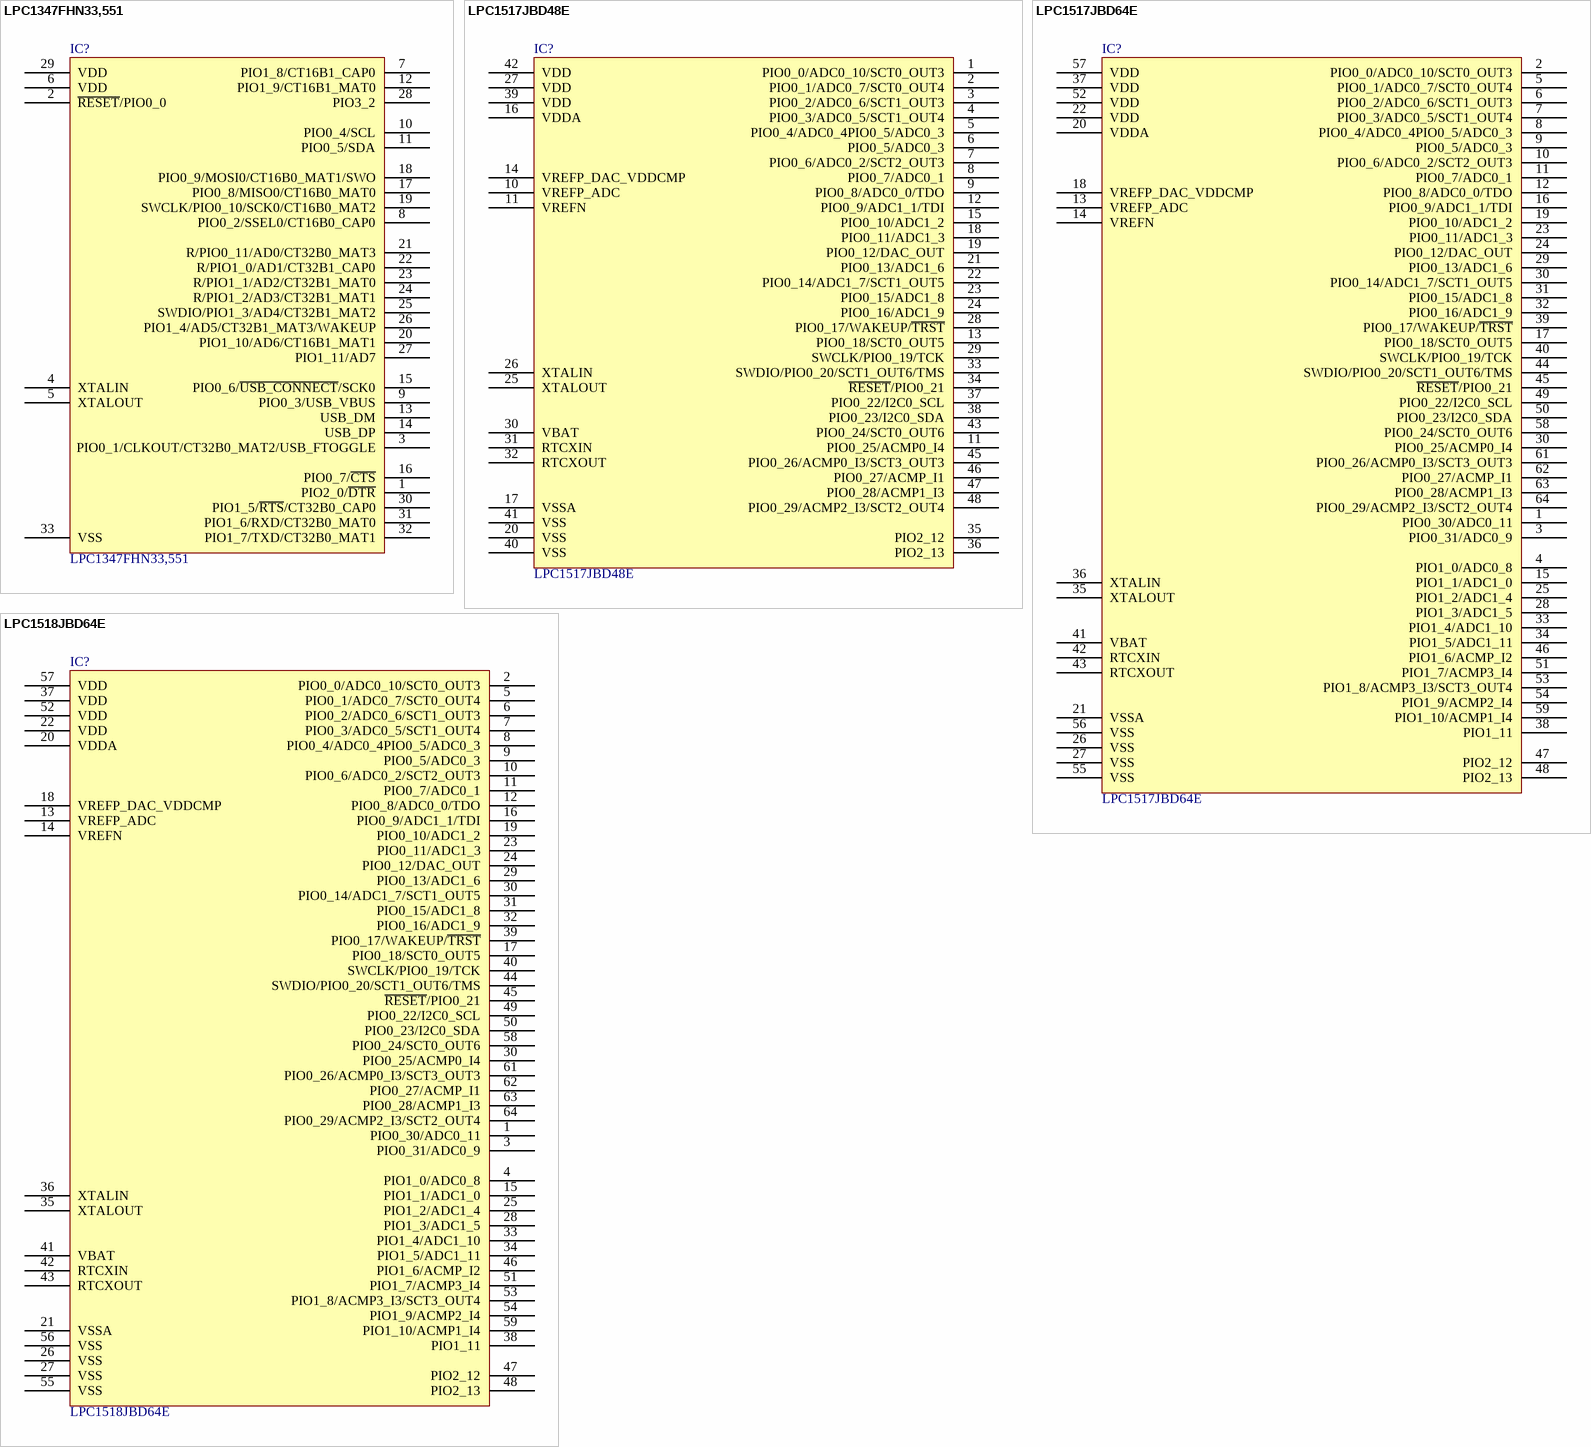
[diagram p12: symbols LPC1347FHN33,551 to LPC1518JBD64E]

## LPC1347FHN33,551
designator IC?
IC MCU 32BIT 64KB FLASH 32HVQFN; Manufacturer: NXP Semiconductors; Core Processor: ARM Cortex-M3; Core Size: 32-Bit; Speed: 72MHz; Connectivity: IC, Microwire, SPI, SSI, SSP, UART/USART, USB; Peripherals: Brown-out Detect/Reset, POR, WDT; Number Of IO: 26; Program Memory Size: 64KB (64K x 8); EEPROM Size: 4K x 8; Ram Size: 12K x 8; Voltage: 2 V ~ 3.6 V; Data Converters: A/D 8x12b; Oscillator Type: Internal; Part Number: LPC1347FHN33,551; PartId: 9701; Supplier 1: Digi-Key; Supplier Part Number 1: 568-9600-ND; ComponentLink1Description: Datasheet; ComponentLink1URL: http://www.nxp.com/documents/data_sheet/LPC1315_16_17_45_46_47.pdf; ComponentLink2Description: Digi-Key Listing; ComponentLink2URL: http://www.digikey.com/product-detail/en/nxp-semiconductors/LPC1347FHN33,551/568-9600-ND/3462853; Price: 5.41; Device Package: 32-VQFN Exposed Pad; Series: LPC13xx; Program Memory Type: FLASH
footprint NXP HVQFN-33 7x7mm
pins: 1 PIO2_0/~{DTR}, 2 ~{RESET}/PIO0_0, 3 PIO0_1/CLKOUT/CT32B0_MAT2/USB_FTOGGLE, 4 XTALIN, 5 XTALOUT, 6 VDD, 7 PIO1_8/CT16B1_CAP0, 8 PIO0_2/SSEL0/CT16B0_CAP0, 9 PIO0_3/USB_VBUS, 10 PIO0_4/SCL, 11 PIO0_5/SDA, 12 PIO1_9/CT16B1_MAT0, 13 USB_DM, 14 USB_DP, 15 PIO0_6/~{USB_CONNECT}/SCK0, 16 PIO0_7/~{CTS}, 17 PIO0_8/MISO0/CT16B0_MAT0, 18 PIO0_9/MOSI0/CT16B0_MAT1/SWO, 19 SWCLK/PIO0_10/SCK0/CT16B0_MAT2, 20 PIO1_10/AD6/CT16B1_MAT1, 21 R/PIO0_11/AD0/CT32B0_MAT3, 22 R/PIO1_0/AD1/CT32B1_CAP0, 23 R/PIO1_1/AD2/CT32B1_MAT0, 24 R/PIO1_2/AD3/CT32B1_MAT1, 25 SWDIO/PIO1_3/AD4/CT32B1_MAT2, 26 PIO1_4/AD5/CT32B1_MAT3/WAKEUP, 27 PIO1_11/AD7, 28 PIO3_2, 29 VDD, 30 PIO1_5/~{RTS}/CT32B0_CAP0, 31 PIO1_6/RXD/CT32B0_MAT0, 32 PIO1_7/TXD/CT32B0_MAT1, 33 VSS

## LPC1517JBD48E
designator IC?
IC MCU 32BIT ARM 48LQFP; Manufacturer: NXP Semiconductors; Core Processor: ARM Cortex-M3; Core Size: 32-Bit; Speed: 72MHz; Connectivity: CAN, IC, SPI, UART/USART; Peripherals: Brown-out Detect/Reset, DMA, POR, PWM, WDT; Number Of IO: 32; Program Memory Size: 64KB (64K x 8); Program Memory Type: FLASH; EEPROM Size: 4K x 8; Ram Size: 12K x 8; Voltage: 2.4 V ~ 3.6 V; Data Converters: A/D 16x12b; Oscillator Type: Internal; Part Number: LPC1517JBD48E; PartId: 9238; Supplier 1: Digi-Key; Supplier Part Number 1: 568-11338-ND; ComponentLink1Description: Datasheet; ComponentLink1URL: http://www.nxp.com/documents/data_sheet/LPC15XX.pdf; ComponentLink2Description: Digi-Key Listing; ComponentLink2URL: http://www.digikey.com/product-search/en?pv1291=818&k=LPC151&mnonly=0&newproducts=0&ColumnSort=0&page=1&quantity=0&ptm=0&fid=0&pageSize=500; Price: 5.08; Device Package: 48-LQFP
footprint NXP LQFP-48 7x7mm
pins: 1 PIO0_0/ADC0_10/SCT0_OUT3, 2 PIO0_1/ADC0_7/SCT0_OUT4, 3 PIO0_2/ADC0_6/SCT1_OUT3, 4 PIO0_3/ADC0_5/SCT1_OUT4, 5 PIO0_4/ADC0_4PIO0_5/ADC0_3, 6 PIO0_5/ADC0_3, 7 PIO0_6/ADC0_2/SCT2_OUT3, 8 PIO0_7/ADC0_1, 9 PIO0_8/ADC0_0/TDO, 10 VREFP_ADC, 11 PIO0_25/ACMP0_I4, 11 VREFN, 12 PIO0_9/ADC1_1/TDI, 13 PIO0_18/SCT0_OUT5, 14 VREFP_DAC_VDDCMP, 15 PIO0_10/ADC1_2, 16 VDDA, 17 VSSA, 18 PIO0_11/ADC1_3, 19 PIO0_12/DAC_OUT, 20 VSS, 21 PIO0_13/ADC1_6, 22 PIO0_14/ADC1_7/SCT1_OUT5, 23 PIO0_15/ADC1_8, 24 PIO0_16/ADC1_9, 25 XTALOUT, 26 XTALIN, 27 VDD, 28 PIO0_17/WAKEUP/~{TRST}, 29 SWCLK/PIO0_19/TCK, 30 VBAT, 31 RTCXIN, 32 RTCXOUT, 33 SWDIO/PIO0_20/SCT1_OUT6/TMS, 34 ~{RESET}/PIO0_21, 35 PIO2_12, 36 PIO2_13, 37 PIO0_22/I2C0_SCL, 38 PIO0_23/I2C0_SDA, 39 VDD, 40 VSS, 41 VSS, 42 VDD, 43 PIO0_24/SCT0_OUT6, 45 PIO0_26/ACMP0_I3/SCT3_OUT3, 46 PIO0_27/ACMP_I1, 47 PIO0_28/ACMP1_I3, 48 PIO0_29/ACMP2_I3/SCT2_OUT4

## LPC1517JBD64E
designator IC?
IC MCU 32BIT ARM 64LQFP; Manufacturer: NXP Semiconductors; Core Processor: ARM Cortex-M3; Core Size: 32-Bit; Speed: 72MHz; Number Of IO: 46; Program Memory Size: 64KB (64K x 8); Program Memory Type: FLASH; EEPROM Size: 4K x 8; Ram Size: 12K x 8; Data Converters: A/D 24x12b; Oscillator Type: Internal; Part Number: LPC1517JBD64E; PartId: 9240; Supplier 1: Digi-Key; Supplier Part Number 1: 568-11339-ND; ComponentLink1Description: Datasheet; ComponentLink1URL: http://www.nxp.com/documents/data_sheet/LPC15XX.pdf; ComponentLink2Description: Digi-Key Listing; ComponentLink2URL: https://www.digikey.com/product-detail/en/LPC1517JBD64E/568-11339-ND/4696341; Price: 5.52; Device Package: 64-LQFP; Series: LPC15xx
footprint NXP LQFP-64 10x10mm
pins: 1 PIO0_30/ADC0_11, 2 PIO0_0/ADC0_10/SCT0_OUT3, 3 PIO0_31/ADC0_9, 4 PIO1_0/ADC0_8, 5 PIO0_1/ADC0_7/SCT0_OUT4, 6 PIO0_2/ADC0_6/SCT1_OUT3, 7 PIO0_3/ADC0_5/SCT1_OUT4, 8 PIO0_4/ADC0_4PIO0_5/ADC0_3, 9 PIO0_5/ADC0_3, 10 PIO0_6/ADC0_2/SCT2_OUT3, 11 PIO0_7/ADC0_1, 12 PIO0_8/ADC0_0/TDO, 13 VREFP_ADC, 14 VREFN, 15 PIO1_1/ADC1_0, 16 PIO0_9/ADC1_1/TDI, 17 PIO0_18/SCT0_OUT5, 18 VREFP_DAC_VDDCMP, 19 PIO0_10/ADC1_2, 20 VDDA, 21 VSSA, 22 VDD, 23 PIO0_11/ADC1_3, 24 PIO0_12/DAC_OUT, 25 PIO1_2/ADC1_4, 26 VSS, 27 VSS, 28 PIO1_3/ADC1_5, 29 PIO0_13/ADC1_6, 30 PIO0_14/ADC1_7/SCT1_OUT5, 30 PIO0_25/ACMP0_I4, 31 PIO0_15/ADC1_8, 32 PIO0_16/ADC1_9, 33 PIO1_4/ADC1_10, 34 PIO1_5/ADC1_11, 35 XTALOUT, 36 XTALIN, 37 VDD, 38 PIO1_11, 39 PIO0_17/WAKEUP/~{TRST}, 40 SWCLK/PIO0_19/TCK, 41 VBAT, 42 RTCXIN, 43 RTCXOUT, 44 SWDIO/PIO0_20/SCT1_OUT6/TMS, 45 ~{RESET}/PIO0_21, 46 PIO1_6/ACMP_I2, 47 PIO2_12, 48 PIO2_13, 49 PIO0_22/I2C0_SCL, 50 PIO0_23/I2C0_SDA, 51 PIO1_7/ACMP3_I4, 52 VDD, 53 PIO1_8/ACMP3_I3/SCT3_OUT4, 54 PIO1_9/ACMP2_I4, 55 VSS, 56 VSS, 57 VDD, 58 PIO0_24/SCT0_OUT6, 59 PIO1_10/ACMP1_I4, 61 PIO0_26/ACMP0_I3/SCT3_OUT3, 62 PIO0_27/ACMP_I1, 63 PIO0_28/ACMP1_I3, 64 PIO0_29/ACMP2_I3/SCT2_OUT4